# Altium schematic symbol library CPU_NXP_IMX.SchLib: 18 symbols (part 1 of 6)
Pins are listed as number, name and electrical type; pins without a type are passive.

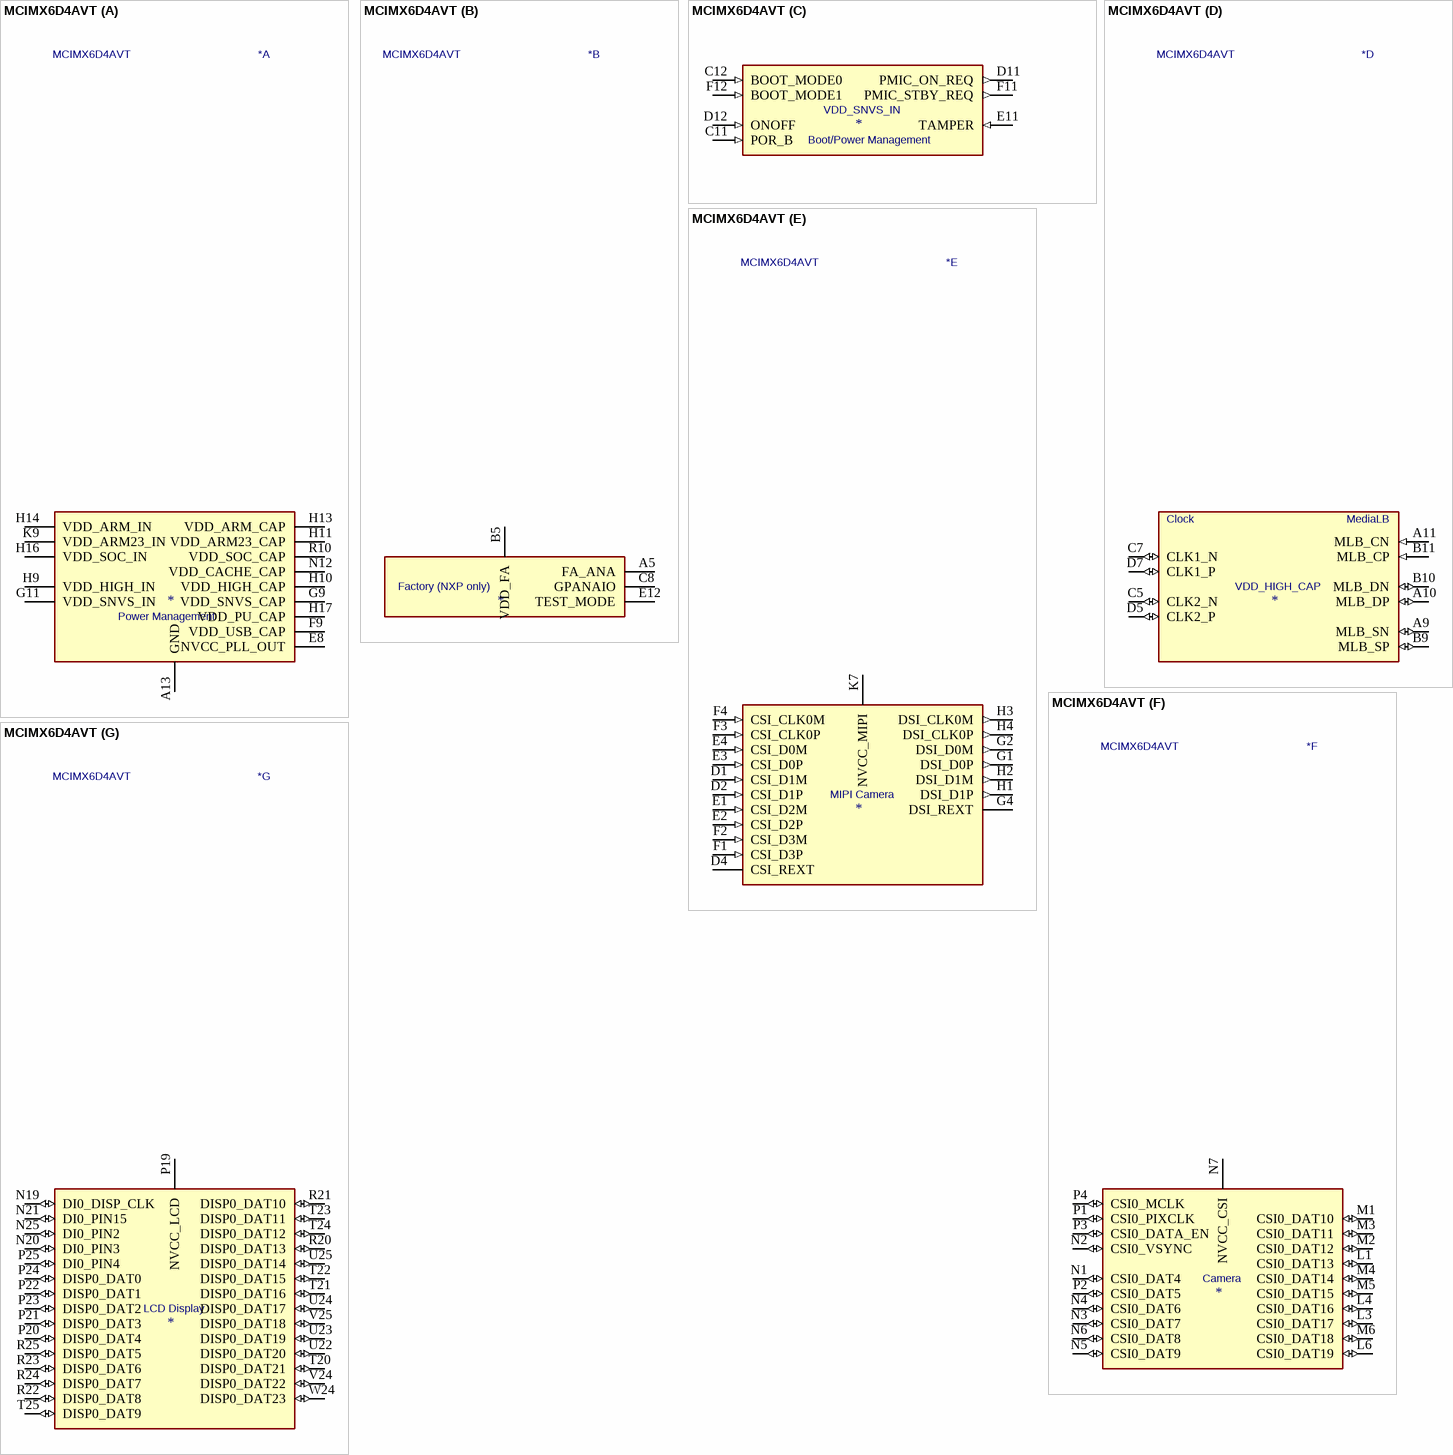
[diagram p0: symbol MCIMX6D4AVT]

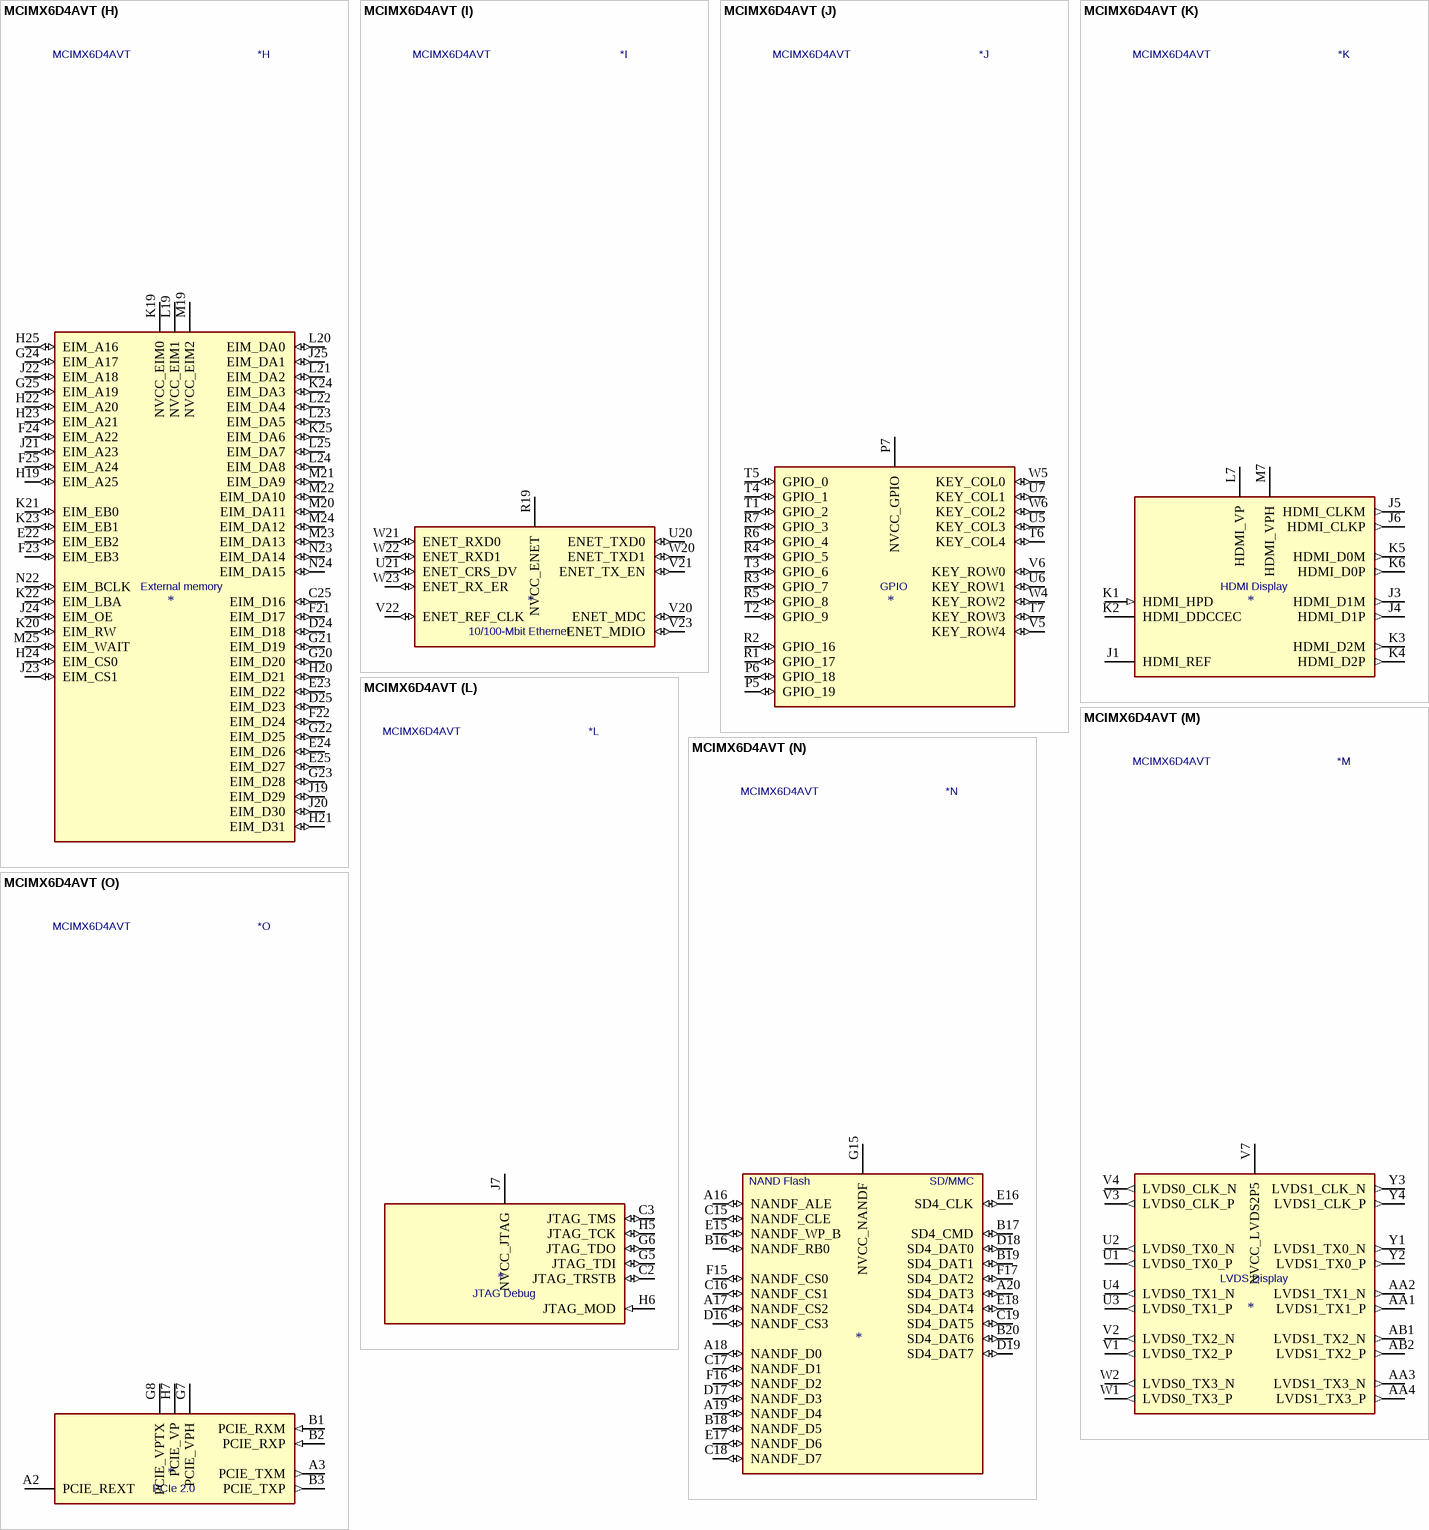
[diagram p1: symbol MCIMX6D4AVT]

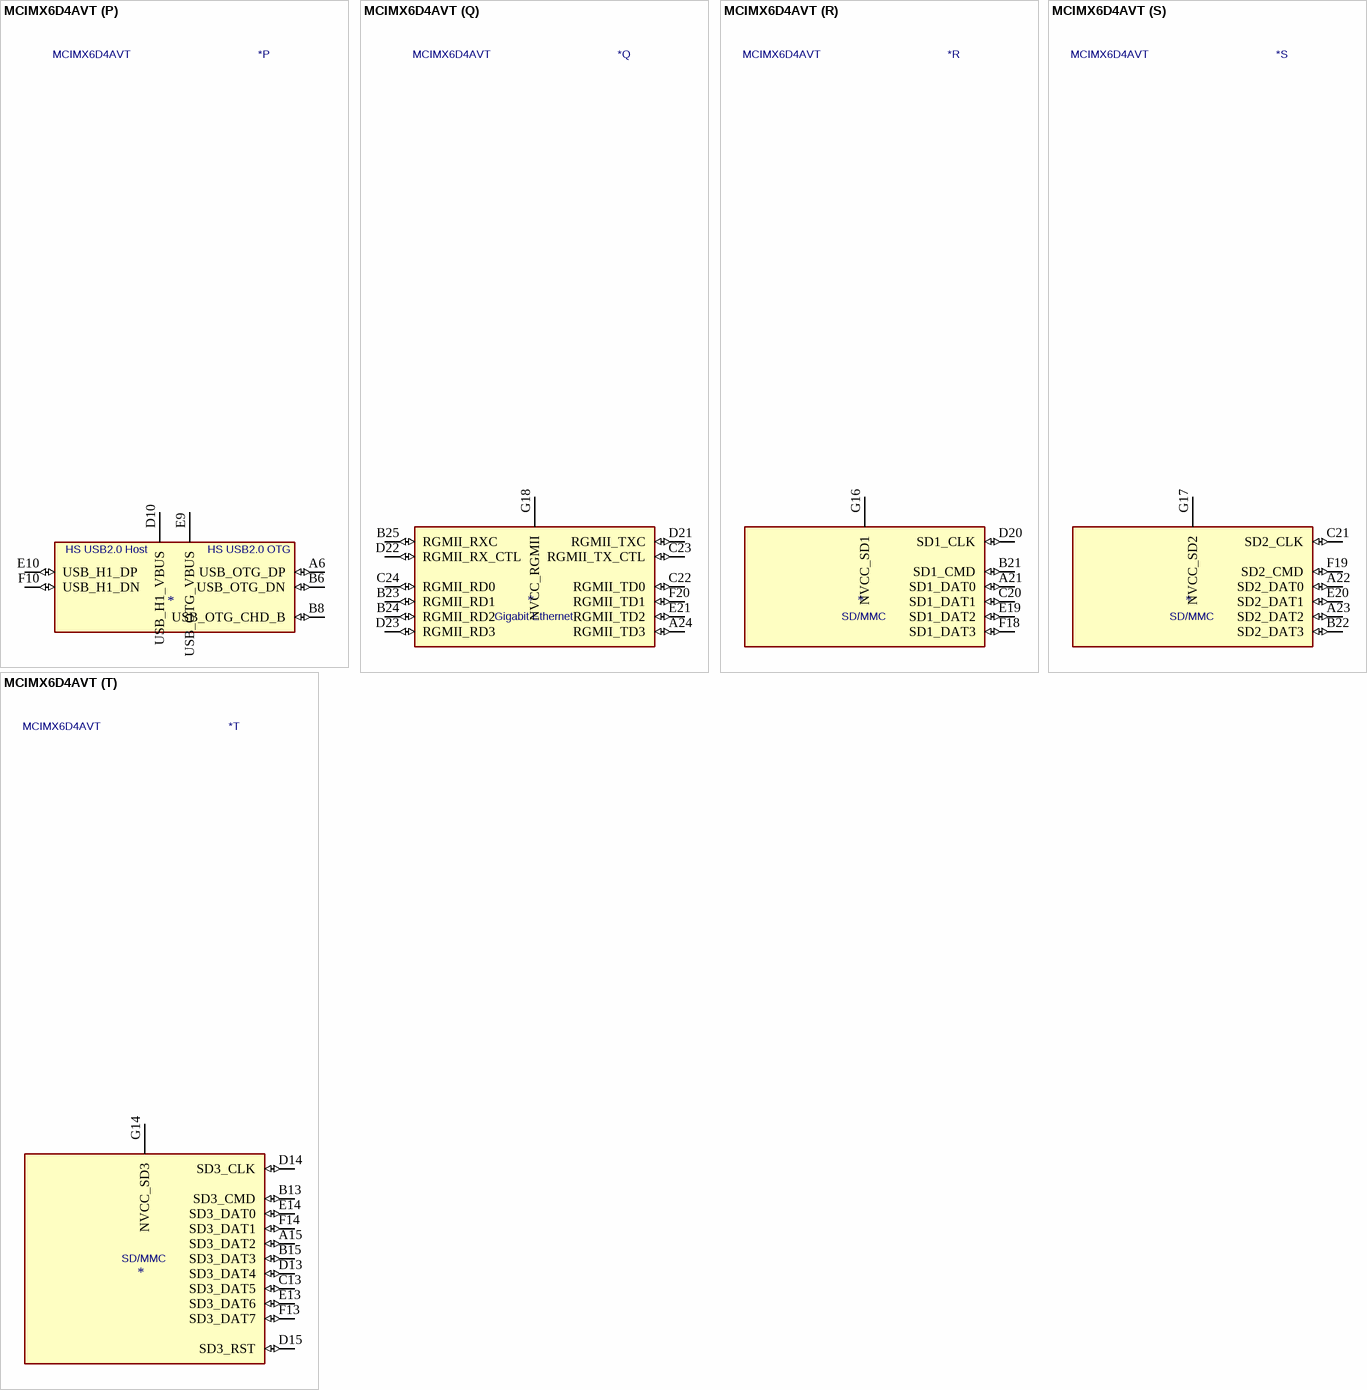
[diagram p2: symbol MCIMX6D4AVT]

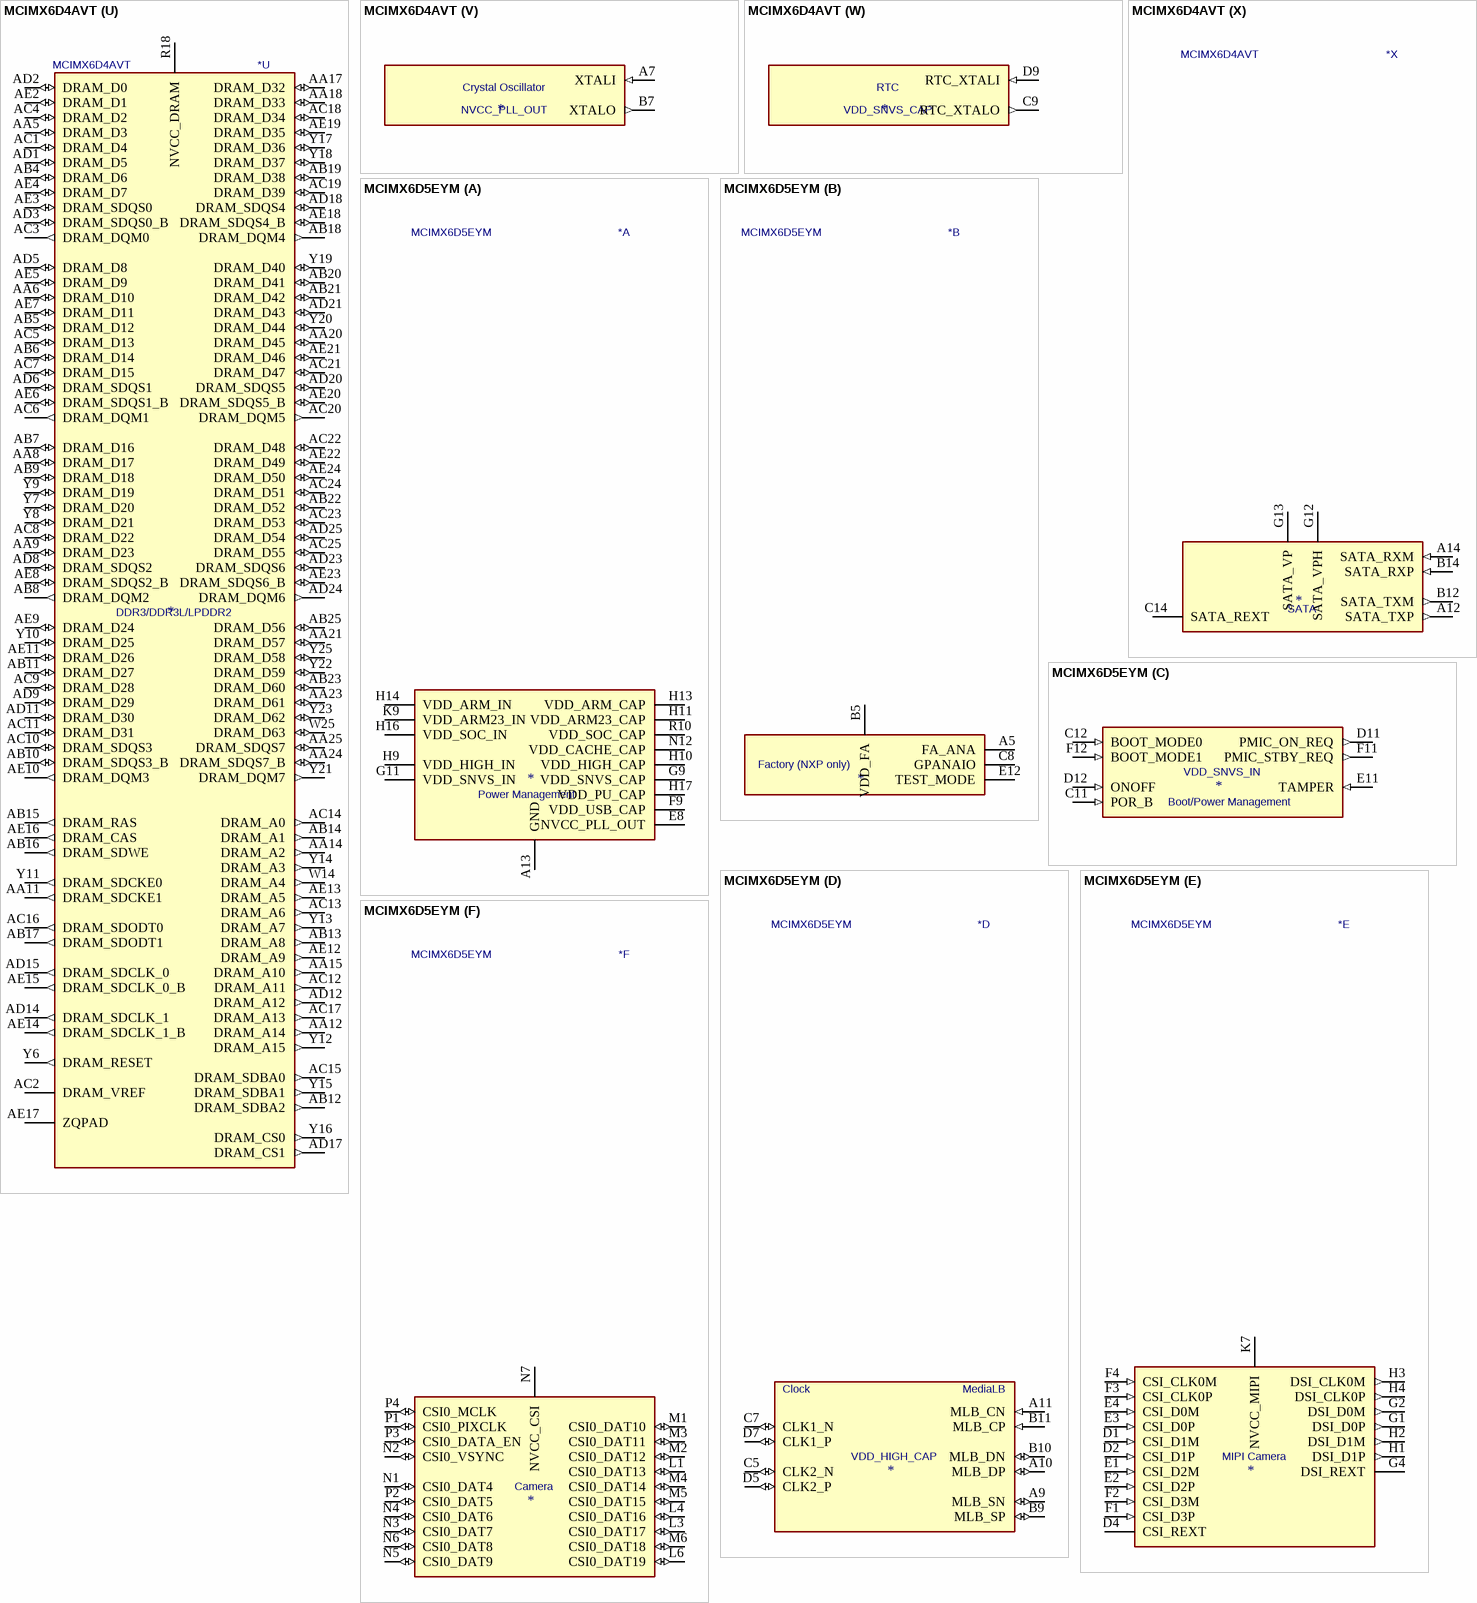
[diagram p3: symbols MCIMX6D4AVT to MCIMX6D5EYM]

## MCIMX6D4AVT
designator *  value MCIMX6D4AVT
ki_keywords: Dual-Core ARM Cortex A9 SOC Automotive; ki_description: i.MX 6Dual Automotive and Infotainment Application Processor, BGA-624; ki_fp_filters: BGA*21.0x21.0mm*P0.8mm*; Footprint: Package_BGA:BGA-624_21.0x21.0mm_Layout25x25_P0.8mm; Supplier: https://www.nxp.com/docs/en/data-sheet/IMX6DQAEC.pdf
footprint BGA-624_21.0x21.0mm_Layout25x25_P0.8mm
part A pins: A4 GND hidden, A8 GND hidden, A13 GND (power), A25 GND hidden, AA7 GND hidden, AA10 GND hidden, AA13 GND hidden, AA16 GND hidden, AA19 GND hidden, AA22 GND hidden, AB3 GND hidden, AB24 GND hidden, AD4 GND hidden, AD7 GND hidden, AD10 GND hidden, AD13 GND hidden, AD16 GND hidden, AD19 GND hidden, AD22 GND hidden, AE1 GND hidden, AE25 GND hidden, B4 GND hidden, C1 GND hidden, C4 GND hidden, C6 GND hidden, C10 GND hidden, D3 GND hidden, D6 GND hidden, D8 GND hidden, E5 GND hidden, E6 GND hidden, E7 GND hidden, E8 NVCC_PLL_OUT (power), F5 GND hidden, F6 GND hidden, F7 GND hidden, F8 GND hidden, F9 VDD_USB_CAP (power), G3 GND hidden, G9 VDD_SNVS_CAP (power), G10 GND hidden, G11 VDD_SNVS_IN (power), G19 GND hidden, H8 GND hidden, H9 VDD_HIGH_IN (power), H10 VDD_HIGH_CAP (power), H11 VDD_ARM23_CAP (power), H12 GND hidden, H13 VDD_ARM_CAP (power), H14 VDD_ARM_IN (power), H15 GND hidden, H16 VDD_SOC_IN (power), H17 VDD_PU_CAP (power), H18 GND hidden, J2 GND hidden, J8 GND hidden, J9 VDD_HIGH_IN hidden, J10 VDD_HIGH_CAP hidden, J11 VDD_ARM23_CAP hidden, J12 GND hidden, J13 VDD_ARM_CAP hidden, J14 VDD_ARM_IN hidden, J15 GND hidden, J16 VDD_SOC_IN hidden, J17 VDD_PU_CAP hidden, J18 GND hidden, K8 GND hidden, K9 VDD_ARM23_IN (power), K10 GND hidden, K11 VDD_ARM23_CAP hidden, K12 GND hidden, K13 VDD_ARM_CAP hidden, K14 VDD_ARM_IN hidden, K15 GND hidden, K16 VDD_SOC_IN hidden, K17 VDD_PU_CAP hidden, K18 GND hidden, L2 GND hidden, L5 GND hidden, L8 GND hidden, L9 VDD_ARM23_IN hidden, L10 GND hidden, L11 VDD_ARM23_CAP hidden, L12 GND hidden, L13 VDD_ARM_CAP hidden, L14 VDD_ARM_IN hidden, L15 GND hidden, L16 VDD_SOC_IN hidden, L17 VDD_PU_CAP hidden, L18 GND hidden, M8 GND hidden, M9 VDD_ARM23_IN hidden, M10 GND hidden, M11 VDD_ARM23_CAP hidden, M12 GND hidden, M13 VDD_ARM_CAP hidden, M14 VDD_ARM_IN hidden, M15 GND hidden, M16 VDD_SOC_IN hidden, M17 VDD_PU_CAP hidden, M18 GND hidden, N8 GND hidden, N9 VDD_ARM23_IN hidden, N10 GND hidden, N11 VDD_ARM23_CAP hidden, N12 VDD_CACHE_CAP (power), N13 VDD_ARM_CAP hidden, N14 VDD_ARM_IN hidden, N15 GND hidden, N16 VDD_SOC_IN hidden, N17 VDD_PU_CAP hidden, N18 GND hidden, P8 GND hidden, P9 VDD_ARM23_IN hidden, P10 GND hidden, P11 VDD_ARM23_CAP hidden, P12 GND hidden, P13 VDD_ARM_CAP hidden, P14 VDD_ARM_IN hidden, P15 GND hidden, P16 VDD_SOC_IN hidden, P17 VDD_PU_CAP hidden, P18 GND hidden, R8 GND hidden, R9 VDD_ARM23_IN hidden, R10 VDD_SOC_CAP (power), R11 VDD_ARM23_CAP hidden, R12 GND hidden, R13 VDD_ARM_CAP hidden, R14 VDD_ARM_IN hidden, R15 GND hidden, R16 VDD_SOC_IN hidden, R17 GND hidden, T8 GND hidden, T9 VDD_ARM23_IN hidden, T10 VDD_SOC_CAP hidden, T11 GND hidden, T12 GND hidden, T13 VDD_SOC_CAP hidden, T14 VDD_SOC_CAP hidden, T15 GND hidden, T16 VDD_SOC_IN hidden, T17 GND hidden, T19 GND hidden, U8 GND hidden, U9 VDD_ARM23_IN hidden, U10 VDD_SOC_CAP hidden, U11 GND hidden, U12 GND hidden, U13 VDD_SOC_CAP hidden, U14 VDD_SOC_CAP hidden, U15 GND hidden, U16 VDD_SOC_IN hidden, U17 GND hidden, U19 GND hidden, V8 GND hidden, V19 GND hidden, W3 GND hidden, W7 GND hidden, W8 GND hidden, W9 GND hidden, W10 GND hidden, W11 GND hidden, W12 GND hidden, W13 GND hidden, W15 GND hidden, W16 GND hidden, W17 GND hidden, W18 GND hidden, W19 GND hidden, Y5 GND hidden, Y24 GND hidden
part B pins: A5 FA_ANA, B5 VDD_FA, C8 GPANAIO, E12 TEST_MODE
part C pins: C11 POR_B (in), C12 BOOT_MODE0 (in), D11 PMIC_ON_REQ (out), D12 ONOFF (in), E11 TAMPER (in), F11 PMIC_STBY_REQ (out), F12 BOOT_MODE1 (in)
part D pins: A9 MLB_SN (io), A10 MLB_DP (io), A11 MLB_CN (in), B9 MLB_SP (io), B10 MLB_DN (io), B11 MLB_CP (in), C5 CLK2_N (io), C7 CLK1_N (io), D5 CLK2_P (io), D7 CLK1_P (io)
part E pins: D1 CSI_D1M (in), D2 CSI_D1P (in), D4 CSI_REXT, E1 CSI_D2M (in), E2 CSI_D2P (in), E3 CSI_D0P (in), E4 CSI_D0M (in), F1 CSI_D3P (in), F2 CSI_D3M (in), F3 CSI_CLK0P (in), F4 CSI_CLK0M (in), G1 DSI_D0P (out), G2 DSI_D0M (out), G4 DSI_REXT, H1 DSI_D1P (out), H2 DSI_D1M (out), H3 DSI_CLK0M (out), H4 DSI_CLK0P (out), K7 NVCC_MIPI (power)
part F pins: L1 CSI0_DAT13 (io), L3 CSI0_DAT17 (io), L4 CSI0_DAT16 (io), L6 CSI0_DAT19 (io), M1 CSI0_DAT10 (io), M2 CSI0_DAT12 (io), M3 CSI0_DAT11 (io), M4 CSI0_DAT14 (io), M5 CSI0_DAT15 (io), M6 CSI0_DAT18 (io), N1 CSI0_DAT4 (io), N2 CSI0_VSYNC (io), N3 CSI0_DAT7 (io), N4 CSI0_DAT6 (io), N5 CSI0_DAT9 (io), N6 CSI0_DAT8 (io), N7 NVCC_CSI (power), P1 CSI0_PIXCLK (io), P2 CSI0_DAT5 (io), P3 CSI0_DATA_EN (io), P4 CSI0_MCLK (io)
part G pins: N19 DI0_DISP_CLK (io), N20 DI0_PIN3 (io), N21 DI0_PIN15 (io), N25 DI0_PIN2 (io), P19 NVCC_LCD (power), P20 DISP0_DAT4 (io), P21 DISP0_DAT3 (io), P22 DISP0_DAT1 (io), P23 DISP0_DAT2 (io), P24 DISP0_DAT0 (io), P25 DI0_PIN4 (io), R20 DISP0_DAT13 (io), R21 DISP0_DAT10 (io), R22 DISP0_DAT8 (io), R23 DISP0_DAT6 (io), R24 DISP0_DAT7 (io), R25 DISP0_DAT5 (io), T20 DISP0_DAT21 (io), T21 DISP0_DAT16 (io), T22 DISP0_DAT15 (io), T23 DISP0_DAT11 (io), T24 DISP0_DAT12 (io), T25 DISP0_DAT9 (io), U22 DISP0_DAT20 (io), U23 DISP0_DAT19 (io), U24 DISP0_DAT17 (io), U25 DISP0_DAT14 (io), V24 DISP0_DAT22 (io), V25 DISP0_DAT18 (io), W24 DISP0_DAT23 (io)
part H pins: C25 EIM_D16 (io), D24 EIM_D18 (io), D25 EIM_D23 (io), E22 EIM_EB2 (io), E23 EIM_D22 (io), E24 EIM_D26 (io), E25 EIM_D27 (io), F21 EIM_D17 (io), F22 EIM_D24 (io), F23 EIM_EB3 (io), F24 EIM_A22 (io), F25 EIM_A24 (io), G20 EIM_D20 (io), G21 EIM_D19 (io), G22 EIM_D25 (io), G23 EIM_D28 (io), G24 EIM_A17 (io), G25 EIM_A19 (io), H19 EIM_A25 (io), H20 EIM_D21 (io), H21 EIM_D31 (io), H22 EIM_A20 (io), H23 EIM_A21 (io), H24 EIM_CS0 (io), H25 EIM_A16 (io), J19 EIM_D29 (io), J20 EIM_D30 (io), J21 EIM_A23 (io), J22 EIM_A18 (io), J23 EIM_CS1 (io), J24 EIM_OE (io), J25 EIM_DA1 (io), K19 NVCC_EIM0 (power), K20 EIM_RW (io), K21 EIM_EB0 (io), K22 EIM_LBA (io), K23 EIM_EB1 (io), K24 EIM_DA3 (io), K25 EIM_DA6 (io), L19 NVCC_EIM1 (power), L20 EIM_DA0 (io), L21 EIM_DA2 (io), L22 EIM_DA4 (io), L23 EIM_DA5 (io), L24 EIM_DA8 (io), L25 EIM_DA7 (io), M19 NVCC_EIM2 (power), M20 EIM_DA11 (io), M21 EIM_DA9 (io), M22 EIM_DA10 (io), M23 EIM_DA13 (io), M24 EIM_DA12 (io), M25 EIM_WAIT (io), N22 EIM_BCLK (io), N23 EIM_DA14 (io), N24 EIM_DA15 (io)
part I pins: R19 NVCC_ENET (power), U20 ENET_TXD0 (io), U21 ENET_CRS_DV (io), V20 ENET_MDC (io), V21 ENET_TX_EN (io), V22 ENET_REF_CLK (io), V23 ENET_MDIO (io), W20 ENET_TXD1 (io), W21 ENET_RXD0 (io), W22 ENET_RXD1 (io), W23 ENET_RX_ER (io)
part J pins: P5 GPIO_19 (io), P6 GPIO_18 (io), P7 NVCC_GPIO (power), R1 GPIO_17 (io), R2 GPIO_16 (io), R3 GPIO_7 (io), R4 GPIO_5 (io), R5 GPIO_8 (io), R6 GPIO_4 (io), R7 GPIO_3 (io), T1 GPIO_2 (io), T2 GPIO_9 (io), T3 GPIO_6 (io), T4 GPIO_1 (io), T5 GPIO_0 (io), T6 KEY_COL4 (io), T7 KEY_ROW3 (io), U5 KEY_COL3 (io), U6 KEY_ROW1 (io), U7 KEY_COL1 (io), V5 KEY_ROW4 (io), V6 KEY_ROW0 (io), W4 KEY_ROW2 (io), W5 KEY_COL0 (io), W6 KEY_COL2 (io)
part K pins: J1 HDMI_REF, J3 HDMI_D1M (out), J4 HDMI_D1P (out), J5 HDMI_CLKM (out), J6 HDMI_CLKP (out), K1 HDMI_HPD (in), K2 HDMI_DDCCEC, K3 HDMI_D2M (out), K4 HDMI_D2P (out), K5 HDMI_D0M (out), K6 HDMI_D0P (out), L7 HDMI_VP (power), M7 HDMI_VPH (power)
part L pins: C2 JTAG_TRSTB (io), C3 JTAG_TMS (io), G5 JTAG_TDI (io), G6 JTAG_TDO (io), H5 JTAG_TCK (io), H6 JTAG_MOD (in), J7 NVCC_JTAG (power)
part M pins: AA1 LVDS1_TX1_P (out), AA2 LVDS1_TX1_N (out), AA3 LVDS1_TX3_N (out), AA4 LVDS1_TX3_P (out), AB1 LVDS1_TX2_N (out), AB2 LVDS1_TX2_P (out), U1 LVDS0_TX0_P (out), U2 LVDS0_TX0_N (out), U3 LVDS0_TX1_P (out), U4 LVDS0_TX1_N (out), V1 LVDS0_TX2_P (out), V2 LVDS0_TX2_N (out), V3 LVDS0_CLK_P (out), V4 LVDS0_CLK_N (out), V7 NVCC_LVDS2P5 (power), W1 LVDS0_TX3_P (out), W2 LVDS0_TX3_N (out), Y1 LVDS1_TX0_N (out), Y2 LVDS1_TX0_P (out), Y3 LVDS1_CLK_N (out), Y4 LVDS1_CLK_P (out)
part N pins: A16 NANDF_ALE (io), A17 NANDF_CS2 (io), A18 NANDF_D0 (io), A19 NANDF_D4 (io), A20 SD4_DAT3 (io), B16 NANDF_RB0 (io), B17 SD4_CMD (io), B18 NANDF_D5 (io), B19 SD4_DAT1 (io), B20 SD4_DAT6 (io), C15 NANDF_CLE (io), C16 NANDF_CS1 (io), C17 NANDF_D1 (io), C18 NANDF_D7 (io), C19 SD4_DAT5 (io), D16 NANDF_CS3 (io), D17 NANDF_D3 (io), D18 SD4_DAT0 (io), D19 SD4_DAT7 (io), E15 NANDF_WP_B (io), E16 SD4_CLK (io), E17 NANDF_D6 (io), E18 SD4_DAT4 (io), F15 NANDF_CS0 (io), F16 NANDF_D2 (io), F17 SD4_DAT2 (io), G15 NVCC_NANDF (power)
part O pins: A2 PCIE_REXT, A3 PCIE_TXM (out), B1 PCIE_RXM (in), B2 PCIE_RXP (in), B3 PCIE_TXP (out), G7 PCIE_VPH (power), G8 PCIE_VPTX (power), H7 PCIE_VP (power)
part P pins: A6 USB_OTG_DP (io), B6 USB_OTG_DN (io), B8 USB_OTG_CHD_B (io), D10 USB_H1_VBUS (power), E9 USB_OTG_VBUS (power), E10 USB_H1_DP (io), F10 USB_H1_DN (io)
part Q pins: A24 RGMII_TD3 (io), B23 RGMII_RD1 (io), B24 RGMII_RD2 (io), B25 RGMII_RXC (io), C22 RGMII_TD0 (io), C23 RGMII_TX_CTL (io), C24 RGMII_RD0 (io), D21 RGMII_TXC (io), D22 RGMII_RX_CTL (io), D23 RGMII_RD3 (io), E21 RGMII_TD2 (io), F20 RGMII_TD1 (io), G18 NVCC_RGMII (power)
part R pins: A21 SD1_DAT0 (io), B21 SD1_CMD (io), C20 SD1_DAT1 (io), D20 SD1_CLK (io), E19 SD1_DAT2 (io), F18 SD1_DAT3 (io), G16 NVCC_SD1 (power)
part S pins: A22 SD2_DAT0 (io), A23 SD2_DAT2 (io), B22 SD2_DAT3 (io), C21 SD2_CLK (io), E20 SD2_DAT1 (io), F19 SD2_CMD (io), G17 NVCC_SD2 (power)
part T pins: A15 SD3_DAT2 (io), B13 SD3_CMD (io), B15 SD3_DAT3 (io), C13 SD3_DAT5 (io), D13 SD3_DAT4 (io), D14 SD3_CLK (io), D15 SD3_RST (io), E13 SD3_DAT6 (io), E14 SD3_DAT0 (io), F13 SD3_DAT7 (io), F14 SD3_DAT1 (io), G14 NVCC_SD3 (power)
part U pins: AA5 DRAM_D3 (io), AA6 DRAM_D10 (io), AA8 DRAM_D17 (io), AA9 DRAM_D23 (io), AA11 DRAM_SDCKE1 (out), AA12 DRAM_A14 (out), AA14 DRAM_A2 (out), AA15 DRAM_A10 (out), AA17 DRAM_D32 (io), AA18 DRAM_D33 (io), AA20 DRAM_D45 (io), AA21 DRAM_D57 (io), AA23 DRAM_D61 (io), AA24 DRAM_SDQS7_B (io), AA25 DRAM_SDQS7 (io), AB4 DRAM_D6 (io), AB5 DRAM_D12 (io), AB6 DRAM_D14 (io), AB7 DRAM_D16 (io), AB8 DRAM_DQM2 (out), AB9 DRAM_D18 (io), AB10 DRAM_SDQS3_B (io), AB11 DRAM_D27 (io), AB12 DRAM_SDBA2 (out), AB13 DRAM_A8 (out), AB14 DRAM_A1 (out), AB15 DRAM_RAS (out), AB16 DRAM_SDWE (out), AB17 DRAM_SDODT1 (out), AB18 DRAM_DQM4 (out), AB19 DRAM_D38 (io), AB20 DRAM_D41 (io), AB21 DRAM_D42 (io), AB22 DRAM_D52 (io), AB23 DRAM_D60 (io), AB25 DRAM_D56 (io), AC1 DRAM_D4 (io), AC2 DRAM_VREF (power), AC3 DRAM_DQM0 (out), AC4 DRAM_D2 (io), AC5 DRAM_D13 (io), AC6 DRAM_DQM1 (out), AC7 DRAM_D15 (io), AC8 DRAM_D22 (io), AC9 DRAM_D28 (io), AC10 DRAM_SDQS3 (io), AC11 DRAM_D31 (io), AC12 DRAM_A11 (out), AC13 DRAM_A6 (out), AC14 DRAM_A0 (out), AC15 DRAM_SDBA0 (out), AC16 DRAM_SDODT0 (out), AC17 DRAM_A13 (out), AC18 DRAM_D34 (io), AC19 DRAM_D39 (io), AC20 DRAM_DQM5 (out), AC21 DRAM_D47 (io), AC22 DRAM_D48 (io), AC23 DRAM_D53 (io), AC24 DRAM_D51 (io), AC25 DRAM_D55 (io), AD1 DRAM_D5 (io), AD2 DRAM_D0 (io), AD3 DRAM_SDQS0_B (io), AD5 DRAM_D8 (io), AD6 DRAM_SDQS1 (io), AD8 DRAM_SDQS2 (io), AD9 DRAM_D29 (io), AD11 DRAM_D30 (io), AD12 DRAM_A12 (out), AD14 DRAM_SDCLK_1 (out), AD15 DRAM_SDCLK_0 (out), AD17 DRAM_CS1 (out), AD18 DRAM_SDQS4 (io), AD20 DRAM_SDQS5 (io), AD21 DRAM_D43 (io), AD23 DRAM_SDQS6 (io), AD24 DRAM_DQM6 (out), AD25 DRAM_D54 (io), AE2 DRAM_D1 (io), AE3 DRAM_SDQS0 (io), AE4 DRAM_D7 (io), AE5 DRAM_D9 (io), AE6 DRAM_SDQS1_B (io), AE7 DRAM_D11 (io), AE8 DRAM_SDQS2_B (io), AE9 DRAM_D24 (io), AE10 DRAM_DQM3 (out), AE11 DRAM_D26 (io), AE12 DRAM_A9 (out), AE13 DRAM_A5 (out), AE14 DRAM_SDCLK_1_B (out), AE15 DRAM_SDCLK_0_B (out), AE16 DRAM_CAS (out), AE17 ZQPAD, AE18 DRAM_SDQS4_B (io), AE19 DRAM_D35 (io), AE20 DRAM_SDQS5_B (io), AE21 DRAM_D46 (io), AE22 DRAM_D49 (io), AE23 DRAM_SDQS6_B (io), AE24 DRAM_D50 (io), R18 NVCC_DRAM (power), T18 NVCC_DRAM hidden, U18 NVCC_DRAM hidden, V9 NVCC_DRAM hidden, V10 NVCC_DRAM hidden, V11 NVCC_DRAM hidden, V12 NVCC_DRAM hidden, V13 NVCC_DRAM hidden, V14 NVCC_DRAM hidden, V15 NVCC_DRAM hidden, V16 NVCC_DRAM hidden, V17 NVCC_DRAM hidden, V18 NVCC_DRAM hidden, W14 DRAM_A4 (out), W25 DRAM_D63 (io), Y6 DRAM_RESET (out), Y7 DRAM_D20 (io), Y8 DRAM_D21 (io), Y9 DRAM_D19 (io), Y10 DRAM_D25 (io), Y11 DRAM_SDCKE0 (out), Y12 DRAM_A15 (out), Y13 DRAM_A7 (out), Y14 DRAM_A3 (out), Y15 DRAM_SDBA1 (out), Y16 DRAM_CS0 (out), Y17 DRAM_D36 (io), Y18 DRAM_D37 (io), Y19 DRAM_D40 (io), Y20 DRAM_D44 (io), Y21 DRAM_DQM7 (out), Y22 DRAM_D59 (io), Y23 DRAM_D62 (io), Y25 DRAM_D58 (io)
part V pins: A7 XTALI (in), B7 XTALO (out)
part W pins: C9 RTC_XTALO (out), D9 RTC_XTALI (in)
part X pins: A12 SATA_TXP (out), A14 SATA_RXM (in), B12 SATA_TXM (out), B14 SATA_RXP (in), C14 SATA_REXT, G12 SATA_VPH (power), G13 SATA_VP (power)
part A text: Power Management
part B text: Factory (NXP only)
part C text: Boot/Power Management
part D text: Clock; MediaLB
part E text: MIPI Camera
part F text: Camera
part G text: LCD Display
part H text: External memory
part I text: 10/100-Mbit Ethernet
part J text: GPIO
part K text: HDMI Display
part L text: JTAG Debug
part M text: LVDS Display
part N text: NAND Flash; SD/MMC
part O text: PCIe 2.0
part P text: HS USB2.0 Host; HS USB2.0 OTG
part Q text: Gigabit Ethernet
part R text: SD/MMC
part S text: SD/MMC
part T text: SD/MMC
part U text: DDR3/DDR3L/LPDDR2
part V text: Crystal Oscillator
part W text: RTC
part X text: SATA

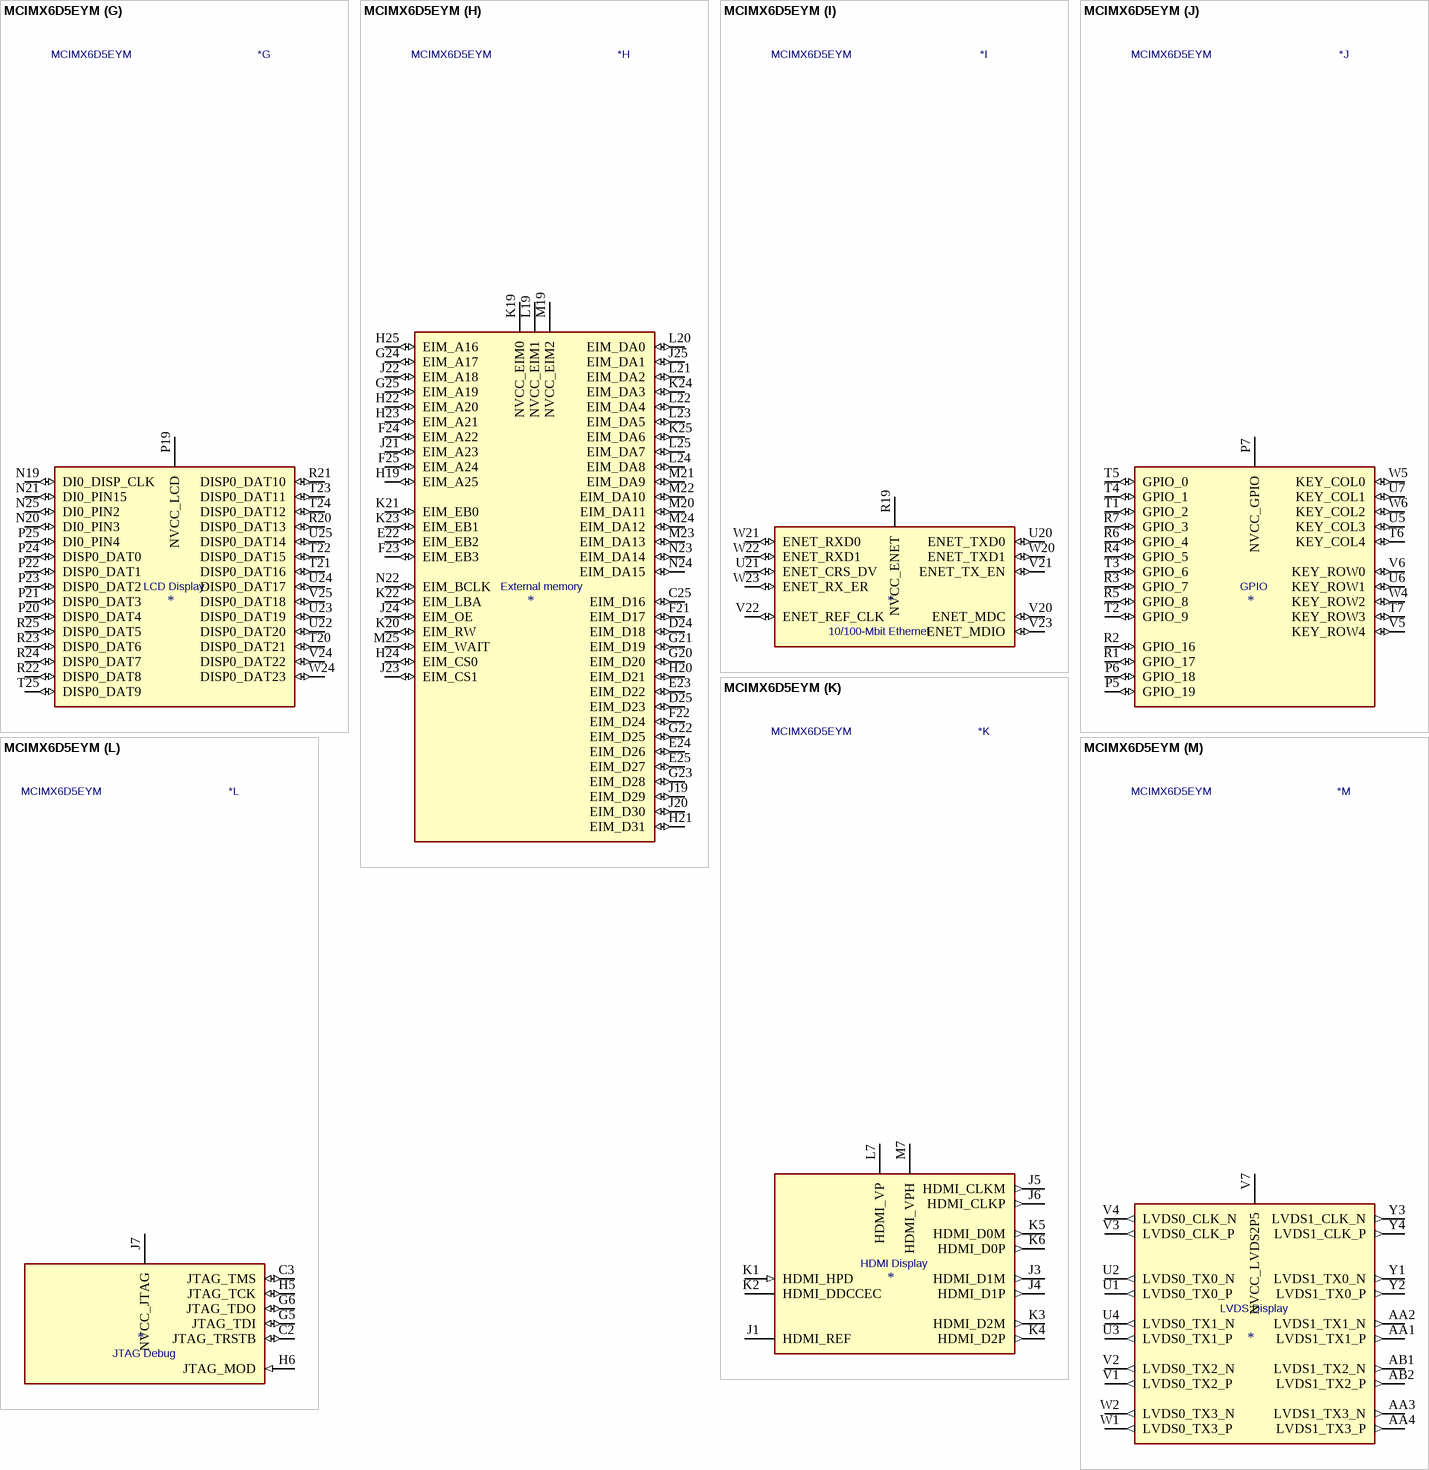
[diagram p4: symbol MCIMX6D5EYM]

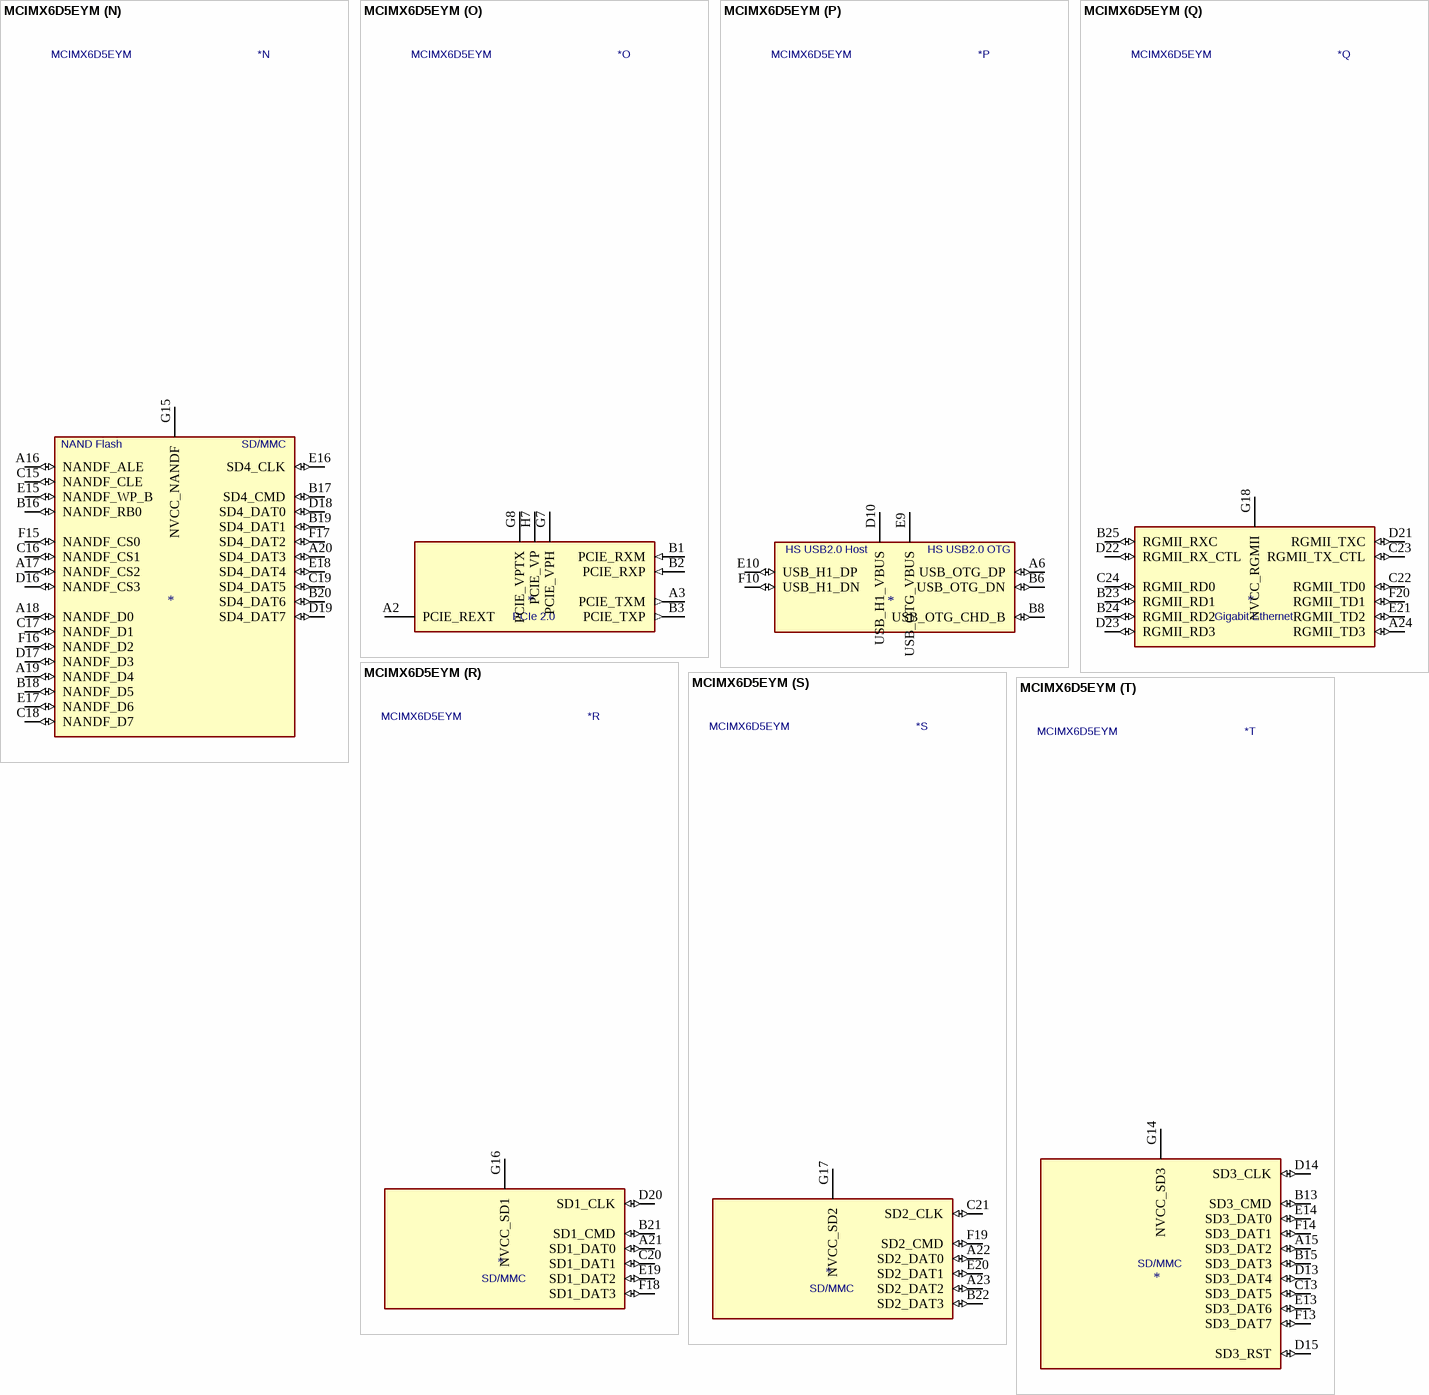
[diagram p5: symbol MCIMX6D5EYM]

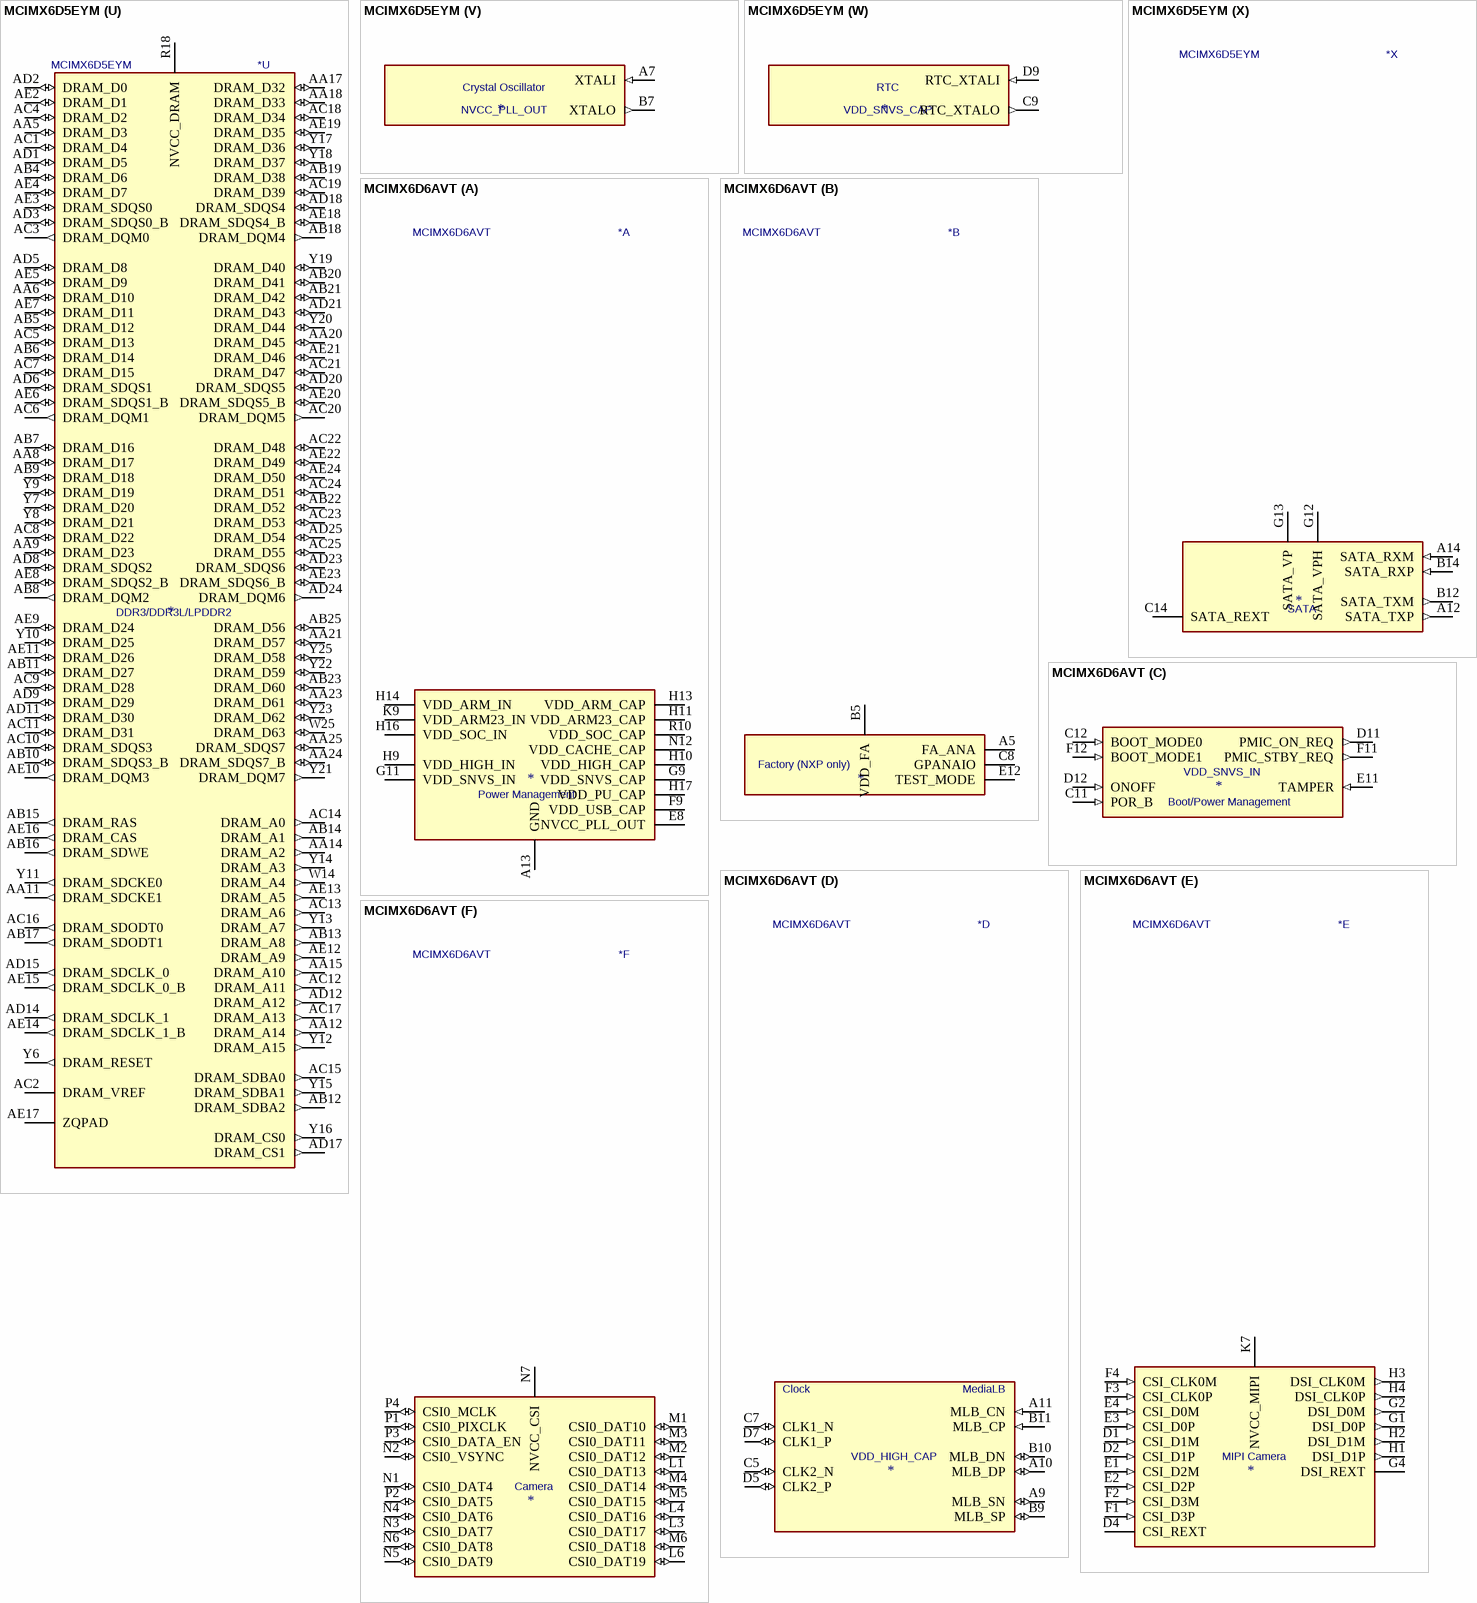
[diagram p6: symbols MCIMX6D5EYM to MCIMX6D6AVT]

## MCIMX6D5EYM
designator *  value MCIMX6D5EYM
ki_keywords: Dual-Core ARM Cortex A9 SOC; ki_description: i.MX 6Dual Application Processor for Consumer Products, BGA-624; ki_fp_filters: BGA*21.0x21.0mm*P0.8mm*; Footprint: Package_BGA:BGA-624_21.0x21.0mm_Layout25x25_P0.8mm; Supplier: https://www.nxp.com/docs/en/data-sheet/IMX6DQCEC.pdf
footprint BGA-624_21.0x21.0mm_Layout25x25_P0.8mm
part A pins: A4 GND hidden, A8 GND hidden, A13 GND (power), A25 GND hidden, AA7 GND hidden, AA10 GND hidden, AA13 GND hidden, AA16 GND hidden, AA19 GND hidden, AA22 GND hidden, AB3 GND hidden, AB24 GND hidden, AD4 GND hidden, AD7 GND hidden, AD10 GND hidden, AD13 GND hidden, AD16 GND hidden, AD19 GND hidden, AD22 GND hidden, AE1 GND hidden, AE25 GND hidden, B4 GND hidden, C1 GND hidden, C4 GND hidden, C6 GND hidden, C10 GND hidden, D3 GND hidden, D6 GND hidden, D8 GND hidden, E5 GND hidden, E6 GND hidden, E7 GND hidden, E8 NVCC_PLL_OUT (power), F5 GND hidden, F6 GND hidden, F7 GND hidden, F8 GND hidden, F9 VDD_USB_CAP (power), G3 GND hidden, G9 VDD_SNVS_CAP (power), G10 GND hidden, G11 VDD_SNVS_IN (power), G19 GND hidden, H8 GND hidden, H9 VDD_HIGH_IN (power), H10 VDD_HIGH_CAP (power), H11 VDD_ARM23_CAP (power), H12 GND hidden, H13 VDD_ARM_CAP (power), H14 VDD_ARM_IN (power), H15 GND hidden, H16 VDD_SOC_IN (power), H17 VDD_PU_CAP (power), H18 GND hidden, J2 GND hidden, J8 GND hidden, J9 VDD_HIGH_IN hidden, J10 VDD_HIGH_CAP hidden, J11 VDD_ARM23_CAP hidden, J12 GND hidden, J13 VDD_ARM_CAP hidden, J14 VDD_ARM_IN hidden, J15 GND hidden, J16 VDD_SOC_IN hidden, J17 VDD_PU_CAP hidden, J18 GND hidden, K8 GND hidden, K9 VDD_ARM23_IN (power), K10 GND hidden, K11 VDD_ARM23_CAP hidden, K12 GND hidden, K13 VDD_ARM_CAP hidden, K14 VDD_ARM_IN hidden, K15 GND hidden, K16 VDD_SOC_IN hidden, K17 VDD_PU_CAP hidden, K18 GND hidden, L2 GND hidden, L5 GND hidden, L8 GND hidden, L9 VDD_ARM23_IN hidden, L10 GND hidden, L11 VDD_ARM23_CAP hidden, L12 GND hidden, L13 VDD_ARM_CAP hidden, L14 VDD_ARM_IN hidden, L15 GND hidden, L16 VDD_SOC_IN hidden, L17 VDD_PU_CAP hidden, L18 GND hidden, M8 GND hidden, M9 VDD_ARM23_IN hidden, M10 GND hidden, M11 VDD_ARM23_CAP hidden, M12 GND hidden, M13 VDD_ARM_CAP hidden, M14 VDD_ARM_IN hidden, M15 GND hidden, M16 VDD_SOC_IN hidden, M17 VDD_PU_CAP hidden, M18 GND hidden, N8 GND hidden, N9 VDD_ARM23_IN hidden, N10 GND hidden, N11 VDD_ARM23_CAP hidden, N12 VDD_CACHE_CAP (power), N13 VDD_ARM_CAP hidden, N14 VDD_ARM_IN hidden, N15 GND hidden, N16 VDD_SOC_IN hidden, N17 VDD_PU_CAP hidden, N18 GND hidden, P8 GND hidden, P9 VDD_ARM23_IN hidden, P10 GND hidden, P11 VDD_ARM23_CAP hidden, P12 GND hidden, P13 VDD_ARM_CAP hidden, P14 VDD_ARM_IN hidden, P15 GND hidden, P16 VDD_SOC_IN hidden, P17 VDD_PU_CAP hidden, P18 GND hidden, R8 GND hidden, R9 VDD_ARM23_IN hidden, R10 VDD_SOC_CAP (power), R11 VDD_ARM23_CAP hidden, R12 GND hidden, R13 VDD_ARM_CAP hidden, R14 VDD_ARM_IN hidden, R15 GND hidden, R16 VDD_SOC_IN hidden, R17 GND hidden, T8 GND hidden, T9 VDD_ARM23_IN hidden, T10 VDD_SOC_CAP hidden, T11 GND hidden, T12 GND hidden, T13 VDD_SOC_CAP hidden, T14 VDD_SOC_CAP hidden, T15 GND hidden, T16 VDD_SOC_IN hidden, T17 GND hidden, T19 GND hidden, U8 GND hidden, U9 VDD_ARM23_IN hidden, U10 VDD_SOC_CAP hidden, U11 GND hidden, U12 GND hidden, U13 VDD_SOC_CAP hidden, U14 VDD_SOC_CAP hidden, U15 GND hidden, U16 VDD_SOC_IN hidden, U17 GND hidden, U19 GND hidden, V8 GND hidden, V19 GND hidden, W3 GND hidden, W7 GND hidden, W8 GND hidden, W9 GND hidden, W10 GND hidden, W11 GND hidden, W12 GND hidden, W13 GND hidden, W15 GND hidden, W16 GND hidden, W17 GND hidden, W18 GND hidden, W19 GND hidden, Y5 GND hidden, Y24 GND hidden
part B pins: A5 FA_ANA, B5 VDD_FA, C8 GPANAIO, E12 TEST_MODE
part C pins: C11 POR_B (in), C12 BOOT_MODE0 (in), D11 PMIC_ON_REQ (out), D12 ONOFF (in), E11 TAMPER (in), F11 PMIC_STBY_REQ (out), F12 BOOT_MODE1 (in)
part D pins: A9 MLB_SN (io), A10 MLB_DP (io), A11 MLB_CN (in), B9 MLB_SP (io), B10 MLB_DN (io), B11 MLB_CP (in), C5 CLK2_N (io), C7 CLK1_N (io), D5 CLK2_P (io), D7 CLK1_P (io)
part E pins: D1 CSI_D1M (in), D2 CSI_D1P (in), D4 CSI_REXT, E1 CSI_D2M (in), E2 CSI_D2P (in), E3 CSI_D0P (in), E4 CSI_D0M (in), F1 CSI_D3P (in), F2 CSI_D3M (in), F3 CSI_CLK0P (in), F4 CSI_CLK0M (in), G1 DSI_D0P (out), G2 DSI_D0M (out), G4 DSI_REXT, H1 DSI_D1P (out), H2 DSI_D1M (out), H3 DSI_CLK0M (out), H4 DSI_CLK0P (out), K7 NVCC_MIPI (power)
part F pins: L1 CSI0_DAT13 (io), L3 CSI0_DAT17 (io), L4 CSI0_DAT16 (io), L6 CSI0_DAT19 (io), M1 CSI0_DAT10 (io), M2 CSI0_DAT12 (io), M3 CSI0_DAT11 (io), M4 CSI0_DAT14 (io), M5 CSI0_DAT15 (io), M6 CSI0_DAT18 (io), N1 CSI0_DAT4 (io), N2 CSI0_VSYNC (io), N3 CSI0_DAT7 (io), N4 CSI0_DAT6 (io), N5 CSI0_DAT9 (io), N6 CSI0_DAT8 (io), N7 NVCC_CSI (power), P1 CSI0_PIXCLK (io), P2 CSI0_DAT5 (io), P3 CSI0_DATA_EN (io), P4 CSI0_MCLK (io)
part G pins: N19 DI0_DISP_CLK (io), N20 DI0_PIN3 (io), N21 DI0_PIN15 (io), N25 DI0_PIN2 (io), P19 NVCC_LCD (power), P20 DISP0_DAT4 (io), P21 DISP0_DAT3 (io), P22 DISP0_DAT1 (io), P23 DISP0_DAT2 (io), P24 DISP0_DAT0 (io), P25 DI0_PIN4 (io), R20 DISP0_DAT13 (io), R21 DISP0_DAT10 (io), R22 DISP0_DAT8 (io), R23 DISP0_DAT6 (io), R24 DISP0_DAT7 (io), R25 DISP0_DAT5 (io), T20 DISP0_DAT21 (io), T21 DISP0_DAT16 (io), T22 DISP0_DAT15 (io), T23 DISP0_DAT11 (io), T24 DISP0_DAT12 (io), T25 DISP0_DAT9 (io), U22 DISP0_DAT20 (io), U23 DISP0_DAT19 (io), U24 DISP0_DAT17 (io), U25 DISP0_DAT14 (io), V24 DISP0_DAT22 (io), V25 DISP0_DAT18 (io), W24 DISP0_DAT23 (io)
part H pins: C25 EIM_D16 (io), D24 EIM_D18 (io), D25 EIM_D23 (io), E22 EIM_EB2 (io), E23 EIM_D22 (io), E24 EIM_D26 (io), E25 EIM_D27 (io), F21 EIM_D17 (io), F22 EIM_D24 (io), F23 EIM_EB3 (io), F24 EIM_A22 (io), F25 EIM_A24 (io), G20 EIM_D20 (io), G21 EIM_D19 (io), G22 EIM_D25 (io), G23 EIM_D28 (io), G24 EIM_A17 (io), G25 EIM_A19 (io), H19 EIM_A25 (io), H20 EIM_D21 (io), H21 EIM_D31 (io), H22 EIM_A20 (io), H23 EIM_A21 (io), H24 EIM_CS0 (io), H25 EIM_A16 (io), J19 EIM_D29 (io), J20 EIM_D30 (io), J21 EIM_A23 (io), J22 EIM_A18 (io), J23 EIM_CS1 (io), J24 EIM_OE (io), J25 EIM_DA1 (io), K19 NVCC_EIM0 (power), K20 EIM_RW (io), K21 EIM_EB0 (io), K22 EIM_LBA (io), K23 EIM_EB1 (io), K24 EIM_DA3 (io), K25 EIM_DA6 (io), L19 NVCC_EIM1 (power), L20 EIM_DA0 (io), L21 EIM_DA2 (io), L22 EIM_DA4 (io), L23 EIM_DA5 (io), L24 EIM_DA8 (io), L25 EIM_DA7 (io), M19 NVCC_EIM2 (power), M20 EIM_DA11 (io), M21 EIM_DA9 (io), M22 EIM_DA10 (io), M23 EIM_DA13 (io), M24 EIM_DA12 (io), M25 EIM_WAIT (io), N22 EIM_BCLK (io), N23 EIM_DA14 (io), N24 EIM_DA15 (io)
part I pins: R19 NVCC_ENET (power), U20 ENET_TXD0 (io), U21 ENET_CRS_DV (io), V20 ENET_MDC (io), V21 ENET_TX_EN (io), V22 ENET_REF_CLK (io), V23 ENET_MDIO (io), W20 ENET_TXD1 (io), W21 ENET_RXD0 (io), W22 ENET_RXD1 (io), W23 ENET_RX_ER (io)
part J pins: P5 GPIO_19 (io), P6 GPIO_18 (io), P7 NVCC_GPIO (power), R1 GPIO_17 (io), R2 GPIO_16 (io), R3 GPIO_7 (io), R4 GPIO_5 (io), R5 GPIO_8 (io), R6 GPIO_4 (io), R7 GPIO_3 (io), T1 GPIO_2 (io), T2 GPIO_9 (io), T3 GPIO_6 (io), T4 GPIO_1 (io), T5 GPIO_0 (io), T6 KEY_COL4 (io), T7 KEY_ROW3 (io), U5 KEY_COL3 (io), U6 KEY_ROW1 (io), U7 KEY_COL1 (io), V5 KEY_ROW4 (io), V6 KEY_ROW0 (io), W4 KEY_ROW2 (io), W5 KEY_COL0 (io), W6 KEY_COL2 (io)
part K pins: J1 HDMI_REF, J3 HDMI_D1M (out), J4 HDMI_D1P (out), J5 HDMI_CLKM (out), J6 HDMI_CLKP (out), K1 HDMI_HPD (in), K2 HDMI_DDCCEC, K3 HDMI_D2M (out), K4 HDMI_D2P (out), K5 HDMI_D0M (out), K6 HDMI_D0P (out), L7 HDMI_VP (power), M7 HDMI_VPH (power)
part L pins: C2 JTAG_TRSTB (io), C3 JTAG_TMS (io), G5 JTAG_TDI (io), G6 JTAG_TDO (io), H5 JTAG_TCK (io), H6 JTAG_MOD (in), J7 NVCC_JTAG (power)
part M pins: AA1 LVDS1_TX1_P (out), AA2 LVDS1_TX1_N (out), AA3 LVDS1_TX3_N (out), AA4 LVDS1_TX3_P (out), AB1 LVDS1_TX2_N (out), AB2 LVDS1_TX2_P (out), U1 LVDS0_TX0_P (out), U2 LVDS0_TX0_N (out), U3 LVDS0_TX1_P (out), U4 LVDS0_TX1_N (out), V1 LVDS0_TX2_P (out), V2 LVDS0_TX2_N (out), V3 LVDS0_CLK_P (out), V4 LVDS0_CLK_N (out), V7 NVCC_LVDS2P5 (power), W1 LVDS0_TX3_P (out), W2 LVDS0_TX3_N (out), Y1 LVDS1_TX0_N (out), Y2 LVDS1_TX0_P (out), Y3 LVDS1_CLK_N (out), Y4 LVDS1_CLK_P (out)
part N pins: A16 NANDF_ALE (io), A17 NANDF_CS2 (io), A18 NANDF_D0 (io), A19 NANDF_D4 (io), A20 SD4_DAT3 (io), B16 NANDF_RB0 (io), B17 SD4_CMD (io), B18 NANDF_D5 (io), B19 SD4_DAT1 (io), B20 SD4_DAT6 (io), C15 NANDF_CLE (io), C16 NANDF_CS1 (io), C17 NANDF_D1 (io), C18 NANDF_D7 (io), C19 SD4_DAT5 (io), D16 NANDF_CS3 (io), D17 NANDF_D3 (io), D18 SD4_DAT0 (io), D19 SD4_DAT7 (io), E15 NANDF_WP_B (io), E16 SD4_CLK (io), E17 NANDF_D6 (io), E18 SD4_DAT4 (io), F15 NANDF_CS0 (io), F16 NANDF_D2 (io), F17 SD4_DAT2 (io), G15 NVCC_NANDF (power)
part O pins: A2 PCIE_REXT, A3 PCIE_TXM (out), B1 PCIE_RXM (in), B2 PCIE_RXP (in), B3 PCIE_TXP (out), G7 PCIE_VPH (power), G8 PCIE_VPTX (power), H7 PCIE_VP (power)
part P pins: A6 USB_OTG_DP (io), B6 USB_OTG_DN (io), B8 USB_OTG_CHD_B (io), D10 USB_H1_VBUS (power), E9 USB_OTG_VBUS (power), E10 USB_H1_DP (io), F10 USB_H1_DN (io)
part Q pins: A24 RGMII_TD3 (io), B23 RGMII_RD1 (io), B24 RGMII_RD2 (io), B25 RGMII_RXC (io), C22 RGMII_TD0 (io), C23 RGMII_TX_CTL (io), C24 RGMII_RD0 (io), D21 RGMII_TXC (io), D22 RGMII_RX_CTL (io), D23 RGMII_RD3 (io), E21 RGMII_TD2 (io), F20 RGMII_TD1 (io), G18 NVCC_RGMII (power)
part R pins: A21 SD1_DAT0 (io), B21 SD1_CMD (io), C20 SD1_DAT1 (io), D20 SD1_CLK (io), E19 SD1_DAT2 (io), F18 SD1_DAT3 (io), G16 NVCC_SD1 (power)
part S pins: A22 SD2_DAT0 (io), A23 SD2_DAT2 (io), B22 SD2_DAT3 (io), C21 SD2_CLK (io), E20 SD2_DAT1 (io), F19 SD2_CMD (io), G17 NVCC_SD2 (power)
part T pins: A15 SD3_DAT2 (io), B13 SD3_CMD (io), B15 SD3_DAT3 (io), C13 SD3_DAT5 (io), D13 SD3_DAT4 (io), D14 SD3_CLK (io), D15 SD3_RST (io), E13 SD3_DAT6 (io), E14 SD3_DAT0 (io), F13 SD3_DAT7 (io), F14 SD3_DAT1 (io), G14 NVCC_SD3 (power)
part U pins: AA5 DRAM_D3 (io), AA6 DRAM_D10 (io), AA8 DRAM_D17 (io), AA9 DRAM_D23 (io), AA11 DRAM_SDCKE1 (out), AA12 DRAM_A14 (out), AA14 DRAM_A2 (out), AA15 DRAM_A10 (out), AA17 DRAM_D32 (io), AA18 DRAM_D33 (io), AA20 DRAM_D45 (io), AA21 DRAM_D57 (io), AA23 DRAM_D61 (io), AA24 DRAM_SDQS7_B (io), AA25 DRAM_SDQS7 (io), AB4 DRAM_D6 (io), AB5 DRAM_D12 (io), AB6 DRAM_D14 (io), AB7 DRAM_D16 (io), AB8 DRAM_DQM2 (out), AB9 DRAM_D18 (io), AB10 DRAM_SDQS3_B (io), AB11 DRAM_D27 (io), AB12 DRAM_SDBA2 (out), AB13 DRAM_A8 (out), AB14 DRAM_A1 (out), AB15 DRAM_RAS (out), AB16 DRAM_SDWE (out), AB17 DRAM_SDODT1 (out), AB18 DRAM_DQM4 (out), AB19 DRAM_D38 (io), AB20 DRAM_D41 (io), AB21 DRAM_D42 (io), AB22 DRAM_D52 (io), AB23 DRAM_D60 (io), AB25 DRAM_D56 (io), AC1 DRAM_D4 (io), AC2 DRAM_VREF (power), AC3 DRAM_DQM0 (out), AC4 DRAM_D2 (io), AC5 DRAM_D13 (io), AC6 DRAM_DQM1 (out), AC7 DRAM_D15 (io), AC8 DRAM_D22 (io), AC9 DRAM_D28 (io), AC10 DRAM_SDQS3 (io), AC11 DRAM_D31 (io), AC12 DRAM_A11 (out), AC13 DRAM_A6 (out), AC14 DRAM_A0 (out), AC15 DRAM_SDBA0 (out), AC16 DRAM_SDODT0 (out), AC17 DRAM_A13 (out), AC18 DRAM_D34 (io), AC19 DRAM_D39 (io), AC20 DRAM_DQM5 (out), AC21 DRAM_D47 (io), AC22 DRAM_D48 (io), AC23 DRAM_D53 (io), AC24 DRAM_D51 (io), AC25 DRAM_D55 (io), AD1 DRAM_D5 (io), AD2 DRAM_D0 (io), AD3 DRAM_SDQS0_B (io), AD5 DRAM_D8 (io), AD6 DRAM_SDQS1 (io), AD8 DRAM_SDQS2 (io), AD9 DRAM_D29 (io), AD11 DRAM_D30 (io), AD12 DRAM_A12 (out), AD14 DRAM_SDCLK_1 (out), AD15 DRAM_SDCLK_0 (out), AD17 DRAM_CS1 (out), AD18 DRAM_SDQS4 (io), AD20 DRAM_SDQS5 (io), AD21 DRAM_D43 (io), AD23 DRAM_SDQS6 (io), AD24 DRAM_DQM6 (out), AD25 DRAM_D54 (io), AE2 DRAM_D1 (io), AE3 DRAM_SDQS0 (io), AE4 DRAM_D7 (io), AE5 DRAM_D9 (io), AE6 DRAM_SDQS1_B (io), AE7 DRAM_D11 (io), AE8 DRAM_SDQS2_B (io), AE9 DRAM_D24 (io), AE10 DRAM_DQM3 (out), AE11 DRAM_D26 (io), AE12 DRAM_A9 (out), AE13 DRAM_A5 (out), AE14 DRAM_SDCLK_1_B (out), AE15 DRAM_SDCLK_0_B (out), AE16 DRAM_CAS (out), AE17 ZQPAD, AE18 DRAM_SDQS4_B (io), AE19 DRAM_D35 (io), AE20 DRAM_SDQS5_B (io), AE21 DRAM_D46 (io), AE22 DRAM_D49 (io), AE23 DRAM_SDQS6_B (io), AE24 DRAM_D50 (io), R18 NVCC_DRAM (power), T18 NVCC_DRAM hidden, U18 NVCC_DRAM hidden, V9 NVCC_DRAM hidden, V10 NVCC_DRAM hidden, V11 NVCC_DRAM hidden, V12 NVCC_DRAM hidden, V13 NVCC_DRAM hidden, V14 NVCC_DRAM hidden, V15 NVCC_DRAM hidden, V16 NVCC_DRAM hidden, V17 NVCC_DRAM hidden, V18 NVCC_DRAM hidden, W14 DRAM_A4 (out), W25 DRAM_D63 (io), Y6 DRAM_RESET (out), Y7 DRAM_D20 (io), Y8 DRAM_D21 (io), Y9 DRAM_D19 (io), Y10 DRAM_D25 (io), Y11 DRAM_SDCKE0 (out), Y12 DRAM_A15 (out), Y13 DRAM_A7 (out), Y14 DRAM_A3 (out), Y15 DRAM_SDBA1 (out), Y16 DRAM_CS0 (out), Y17 DRAM_D36 (io), Y18 DRAM_D37 (io), Y19 DRAM_D40 (io), Y20 DRAM_D44 (io), Y21 DRAM_DQM7 (out), Y22 DRAM_D59 (io), Y23 DRAM_D62 (io), Y25 DRAM_D58 (io)
part V pins: A7 XTALI (in), B7 XTALO (out)
part W pins: C9 RTC_XTALO (out), D9 RTC_XTALI (in)
part X pins: A12 SATA_TXP (out), A14 SATA_RXM (in), B12 SATA_TXM (out), B14 SATA_RXP (in), C14 SATA_REXT, G12 SATA_VPH (power), G13 SATA_VP (power)
part A text: Power Management
part B text: Factory (NXP only)
part C text: Boot/Power Management
part D text: Clock; MediaLB
part E text: MIPI Camera
part F text: Camera
part G text: LCD Display
part H text: External memory
part I text: 10/100-Mbit Ethernet
part J text: GPIO
part K text: HDMI Display
part L text: JTAG Debug
part M text: LVDS Display
part N text: NAND Flash; SD/MMC
part O text: PCIe 2.0
part P text: HS USB2.0 Host; HS USB2.0 OTG
part Q text: Gigabit Ethernet
part R text: SD/MMC
part S text: SD/MMC
part T text: SD/MMC
part U text: DDR3/DDR3L/LPDDR2
part V text: Crystal Oscillator
part W text: RTC
part X text: SATA

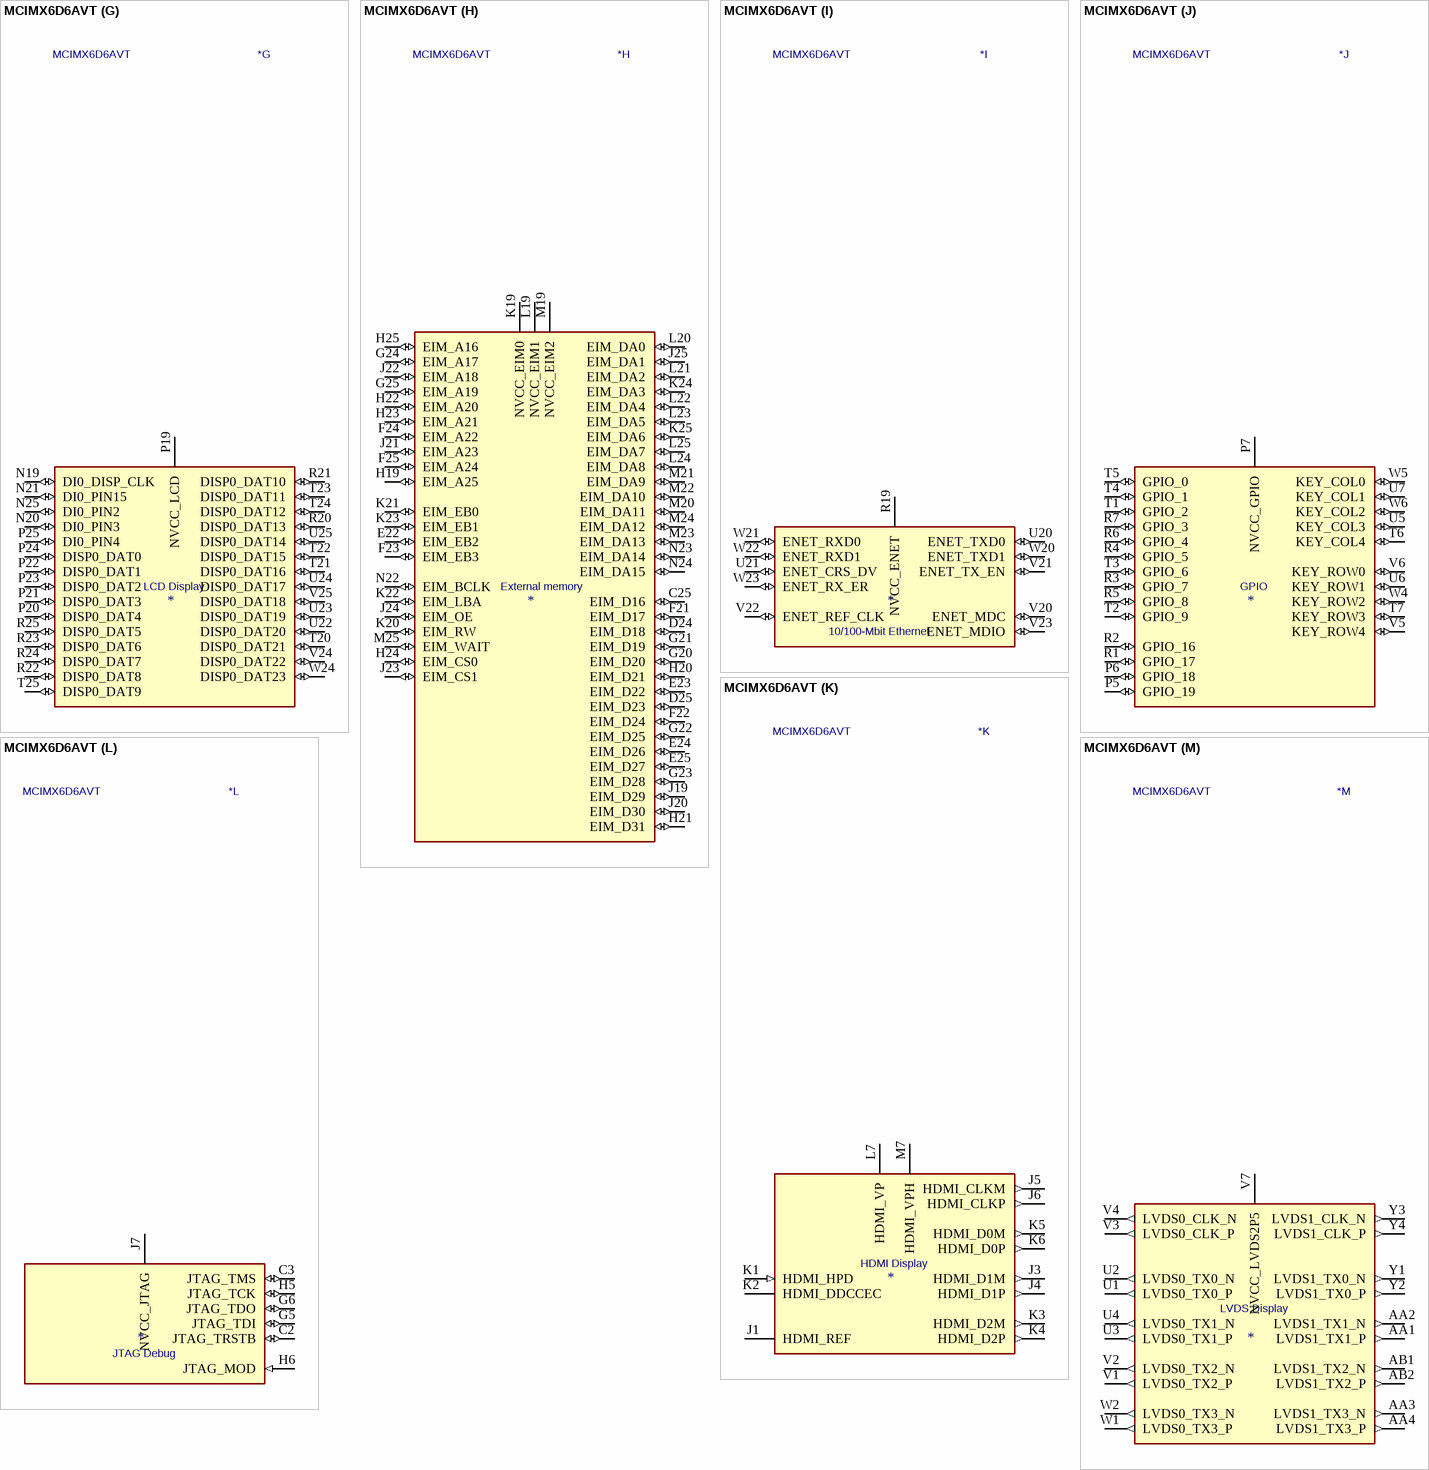
[diagram p7: symbol MCIMX6D6AVT]

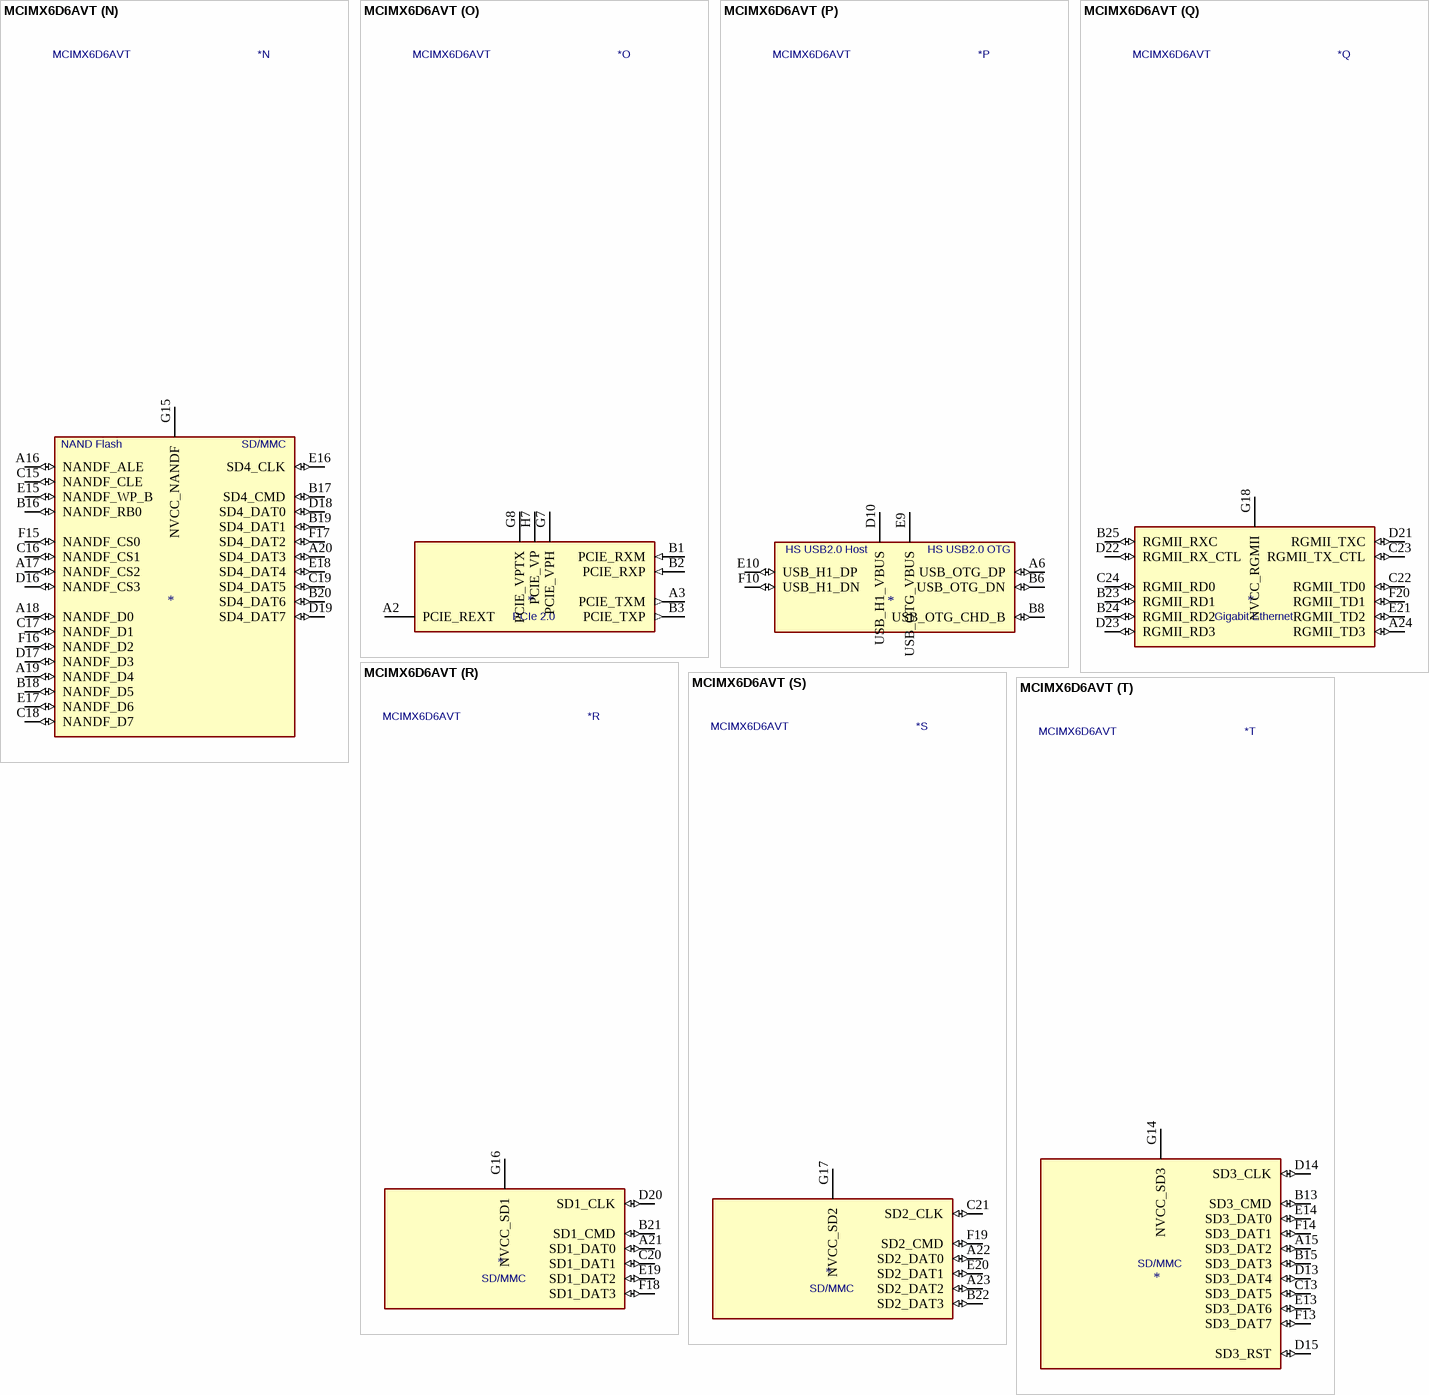
[diagram p8: symbol MCIMX6D6AVT]

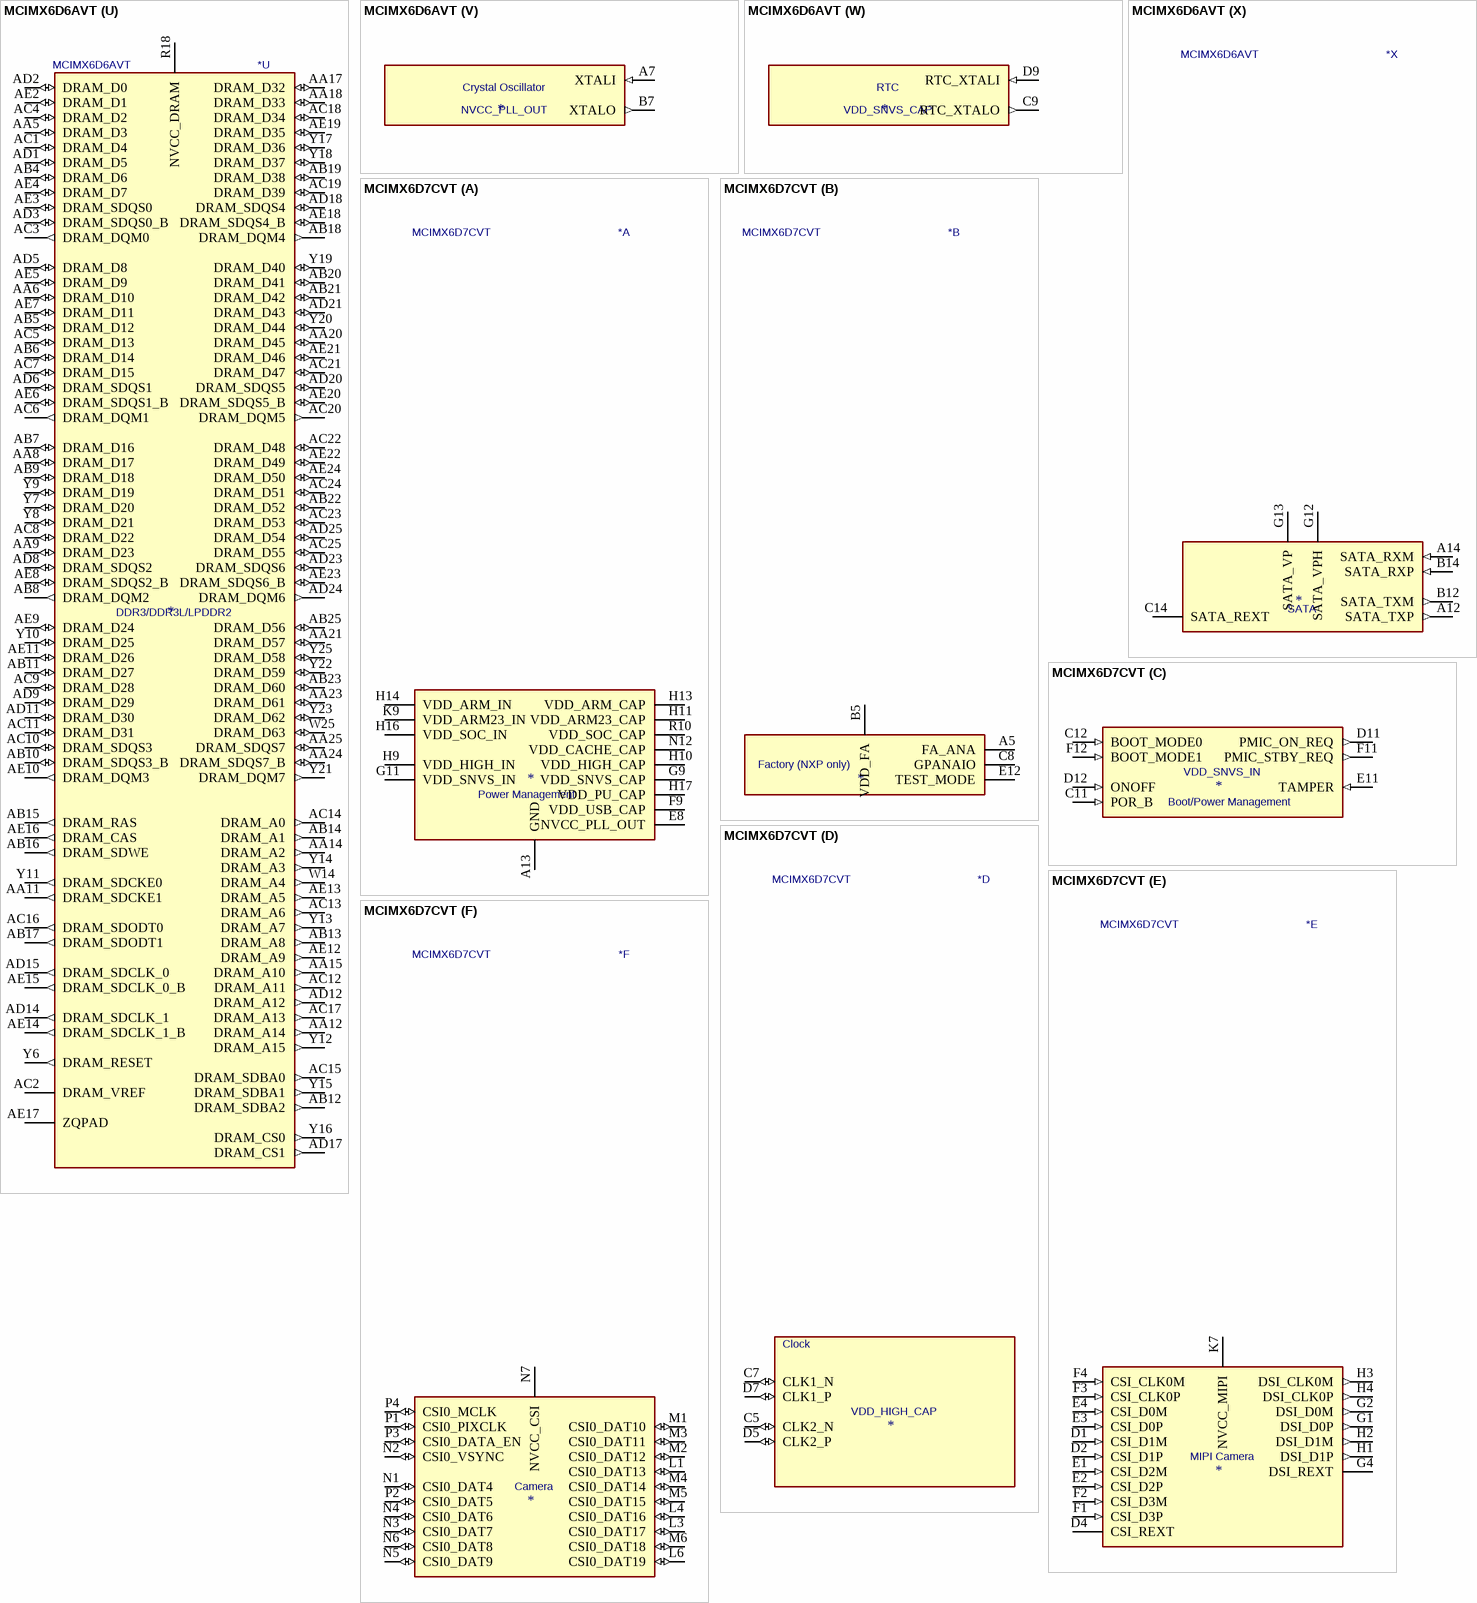
[diagram p9: symbols MCIMX6D6AVT to MCIMX6D7CVT]

## MCIMX6D6AVT
designator *  value MCIMX6D6AVT
ki_keywords: Dual-Core ARM Cortex A9 SOC Automotive; ki_description: i.MX 6Dual Automotive and Infotainment Application Processor, BGA-624; ki_fp_filters: BGA*21.0x21.0mm*P0.8mm*; Footprint: Package_BGA:BGA-624_21.0x21.0mm_Layout25x25_P0.8mm; Supplier: https://www.nxp.com/docs/en/data-sheet/IMX6DQAEC.pdf
footprint BGA-624_21.0x21.0mm_Layout25x25_P0.8mm
part A pins: A4 GND hidden, A8 GND hidden, A13 GND (power), A25 GND hidden, AA7 GND hidden, AA10 GND hidden, AA13 GND hidden, AA16 GND hidden, AA19 GND hidden, AA22 GND hidden, AB3 GND hidden, AB24 GND hidden, AD4 GND hidden, AD7 GND hidden, AD10 GND hidden, AD13 GND hidden, AD16 GND hidden, AD19 GND hidden, AD22 GND hidden, AE1 GND hidden, AE25 GND hidden, B4 GND hidden, C1 GND hidden, C4 GND hidden, C6 GND hidden, C10 GND hidden, D3 GND hidden, D6 GND hidden, D8 GND hidden, E5 GND hidden, E6 GND hidden, E7 GND hidden, E8 NVCC_PLL_OUT (power), F5 GND hidden, F6 GND hidden, F7 GND hidden, F8 GND hidden, F9 VDD_USB_CAP (power), G3 GND hidden, G9 VDD_SNVS_CAP (power), G10 GND hidden, G11 VDD_SNVS_IN (power), G19 GND hidden, H8 GND hidden, H9 VDD_HIGH_IN (power), H10 VDD_HIGH_CAP (power), H11 VDD_ARM23_CAP (power), H12 GND hidden, H13 VDD_ARM_CAP (power), H14 VDD_ARM_IN (power), H15 GND hidden, H16 VDD_SOC_IN (power), H17 VDD_PU_CAP (power), H18 GND hidden, J2 GND hidden, J8 GND hidden, J9 VDD_HIGH_IN hidden, J10 VDD_HIGH_CAP hidden, J11 VDD_ARM23_CAP hidden, J12 GND hidden, J13 VDD_ARM_CAP hidden, J14 VDD_ARM_IN hidden, J15 GND hidden, J16 VDD_SOC_IN hidden, J17 VDD_PU_CAP hidden, J18 GND hidden, K8 GND hidden, K9 VDD_ARM23_IN (power), K10 GND hidden, K11 VDD_ARM23_CAP hidden, K12 GND hidden, K13 VDD_ARM_CAP hidden, K14 VDD_ARM_IN hidden, K15 GND hidden, K16 VDD_SOC_IN hidden, K17 VDD_PU_CAP hidden, K18 GND hidden, L2 GND hidden, L5 GND hidden, L8 GND hidden, L9 VDD_ARM23_IN hidden, L10 GND hidden, L11 VDD_ARM23_CAP hidden, L12 GND hidden, L13 VDD_ARM_CAP hidden, L14 VDD_ARM_IN hidden, L15 GND hidden, L16 VDD_SOC_IN hidden, L17 VDD_PU_CAP hidden, L18 GND hidden, M8 GND hidden, M9 VDD_ARM23_IN hidden, M10 GND hidden, M11 VDD_ARM23_CAP hidden, M12 GND hidden, M13 VDD_ARM_CAP hidden, M14 VDD_ARM_IN hidden, M15 GND hidden, M16 VDD_SOC_IN hidden, M17 VDD_PU_CAP hidden, M18 GND hidden, N8 GND hidden, N9 VDD_ARM23_IN hidden, N10 GND hidden, N11 VDD_ARM23_CAP hidden, N12 VDD_CACHE_CAP (power), N13 VDD_ARM_CAP hidden, N14 VDD_ARM_IN hidden, N15 GND hidden, N16 VDD_SOC_IN hidden, N17 VDD_PU_CAP hidden, N18 GND hidden, P8 GND hidden, P9 VDD_ARM23_IN hidden, P10 GND hidden, P11 VDD_ARM23_CAP hidden, P12 GND hidden, P13 VDD_ARM_CAP hidden, P14 VDD_ARM_IN hidden, P15 GND hidden, P16 VDD_SOC_IN hidden, P17 VDD_PU_CAP hidden, P18 GND hidden, R8 GND hidden, R9 VDD_ARM23_IN hidden, R10 VDD_SOC_CAP (power), R11 VDD_ARM23_CAP hidden, R12 GND hidden, R13 VDD_ARM_CAP hidden, R14 VDD_ARM_IN hidden, R15 GND hidden, R16 VDD_SOC_IN hidden, R17 GND hidden, T8 GND hidden, T9 VDD_ARM23_IN hidden, T10 VDD_SOC_CAP hidden, T11 GND hidden, T12 GND hidden, T13 VDD_SOC_CAP hidden, T14 VDD_SOC_CAP hidden, T15 GND hidden, T16 VDD_SOC_IN hidden, T17 GND hidden, T19 GND hidden, U8 GND hidden, U9 VDD_ARM23_IN hidden, U10 VDD_SOC_CAP hidden, U11 GND hidden, U12 GND hidden, U13 VDD_SOC_CAP hidden, U14 VDD_SOC_CAP hidden, U15 GND hidden, U16 VDD_SOC_IN hidden, U17 GND hidden, U19 GND hidden, V8 GND hidden, V19 GND hidden, W3 GND hidden, W7 GND hidden, W8 GND hidden, W9 GND hidden, W10 GND hidden, W11 GND hidden, W12 GND hidden, W13 GND hidden, W15 GND hidden, W16 GND hidden, W17 GND hidden, W18 GND hidden, W19 GND hidden, Y5 GND hidden, Y24 GND hidden
part B pins: A5 FA_ANA, B5 VDD_FA, C8 GPANAIO, E12 TEST_MODE
part C pins: C11 POR_B (in), C12 BOOT_MODE0 (in), D11 PMIC_ON_REQ (out), D12 ONOFF (in), E11 TAMPER (in), F11 PMIC_STBY_REQ (out), F12 BOOT_MODE1 (in)
part D pins: A9 MLB_SN (io), A10 MLB_DP (io), A11 MLB_CN (in), B9 MLB_SP (io), B10 MLB_DN (io), B11 MLB_CP (in), C5 CLK2_N (io), C7 CLK1_N (io), D5 CLK2_P (io), D7 CLK1_P (io)
part E pins: D1 CSI_D1M (in), D2 CSI_D1P (in), D4 CSI_REXT, E1 CSI_D2M (in), E2 CSI_D2P (in), E3 CSI_D0P (in), E4 CSI_D0M (in), F1 CSI_D3P (in), F2 CSI_D3M (in), F3 CSI_CLK0P (in), F4 CSI_CLK0M (in), G1 DSI_D0P (out), G2 DSI_D0M (out), G4 DSI_REXT, H1 DSI_D1P (out), H2 DSI_D1M (out), H3 DSI_CLK0M (out), H4 DSI_CLK0P (out), K7 NVCC_MIPI (power)
part F pins: L1 CSI0_DAT13 (io), L3 CSI0_DAT17 (io), L4 CSI0_DAT16 (io), L6 CSI0_DAT19 (io), M1 CSI0_DAT10 (io), M2 CSI0_DAT12 (io), M3 CSI0_DAT11 (io), M4 CSI0_DAT14 (io), M5 CSI0_DAT15 (io), M6 CSI0_DAT18 (io), N1 CSI0_DAT4 (io), N2 CSI0_VSYNC (io), N3 CSI0_DAT7 (io), N4 CSI0_DAT6 (io), N5 CSI0_DAT9 (io), N6 CSI0_DAT8 (io), N7 NVCC_CSI (power), P1 CSI0_PIXCLK (io), P2 CSI0_DAT5 (io), P3 CSI0_DATA_EN (io), P4 CSI0_MCLK (io)
part G pins: N19 DI0_DISP_CLK (io), N20 DI0_PIN3 (io), N21 DI0_PIN15 (io), N25 DI0_PIN2 (io), P19 NVCC_LCD (power), P20 DISP0_DAT4 (io), P21 DISP0_DAT3 (io), P22 DISP0_DAT1 (io), P23 DISP0_DAT2 (io), P24 DISP0_DAT0 (io), P25 DI0_PIN4 (io), R20 DISP0_DAT13 (io), R21 DISP0_DAT10 (io), R22 DISP0_DAT8 (io), R23 DISP0_DAT6 (io), R24 DISP0_DAT7 (io), R25 DISP0_DAT5 (io), T20 DISP0_DAT21 (io), T21 DISP0_DAT16 (io), T22 DISP0_DAT15 (io), T23 DISP0_DAT11 (io), T24 DISP0_DAT12 (io), T25 DISP0_DAT9 (io), U22 DISP0_DAT20 (io), U23 DISP0_DAT19 (io), U24 DISP0_DAT17 (io), U25 DISP0_DAT14 (io), V24 DISP0_DAT22 (io), V25 DISP0_DAT18 (io), W24 DISP0_DAT23 (io)
part H pins: C25 EIM_D16 (io), D24 EIM_D18 (io), D25 EIM_D23 (io), E22 EIM_EB2 (io), E23 EIM_D22 (io), E24 EIM_D26 (io), E25 EIM_D27 (io), F21 EIM_D17 (io), F22 EIM_D24 (io), F23 EIM_EB3 (io), F24 EIM_A22 (io), F25 EIM_A24 (io), G20 EIM_D20 (io), G21 EIM_D19 (io), G22 EIM_D25 (io), G23 EIM_D28 (io), G24 EIM_A17 (io), G25 EIM_A19 (io), H19 EIM_A25 (io), H20 EIM_D21 (io), H21 EIM_D31 (io), H22 EIM_A20 (io), H23 EIM_A21 (io), H24 EIM_CS0 (io), H25 EIM_A16 (io), J19 EIM_D29 (io), J20 EIM_D30 (io), J21 EIM_A23 (io), J22 EIM_A18 (io), J23 EIM_CS1 (io), J24 EIM_OE (io), J25 EIM_DA1 (io), K19 NVCC_EIM0 (power), K20 EIM_RW (io), K21 EIM_EB0 (io), K22 EIM_LBA (io), K23 EIM_EB1 (io), K24 EIM_DA3 (io), K25 EIM_DA6 (io), L19 NVCC_EIM1 (power), L20 EIM_DA0 (io), L21 EIM_DA2 (io), L22 EIM_DA4 (io), L23 EIM_DA5 (io), L24 EIM_DA8 (io), L25 EIM_DA7 (io), M19 NVCC_EIM2 (power), M20 EIM_DA11 (io), M21 EIM_DA9 (io), M22 EIM_DA10 (io), M23 EIM_DA13 (io), M24 EIM_DA12 (io), M25 EIM_WAIT (io), N22 EIM_BCLK (io), N23 EIM_DA14 (io), N24 EIM_DA15 (io)
part I pins: R19 NVCC_ENET (power), U20 ENET_TXD0 (io), U21 ENET_CRS_DV (io), V20 ENET_MDC (io), V21 ENET_TX_EN (io), V22 ENET_REF_CLK (io), V23 ENET_MDIO (io), W20 ENET_TXD1 (io), W21 ENET_RXD0 (io), W22 ENET_RXD1 (io), W23 ENET_RX_ER (io)
part J pins: P5 GPIO_19 (io), P6 GPIO_18 (io), P7 NVCC_GPIO (power), R1 GPIO_17 (io), R2 GPIO_16 (io), R3 GPIO_7 (io), R4 GPIO_5 (io), R5 GPIO_8 (io), R6 GPIO_4 (io), R7 GPIO_3 (io), T1 GPIO_2 (io), T2 GPIO_9 (io), T3 GPIO_6 (io), T4 GPIO_1 (io), T5 GPIO_0 (io), T6 KEY_COL4 (io), T7 KEY_ROW3 (io), U5 KEY_COL3 (io), U6 KEY_ROW1 (io), U7 KEY_COL1 (io), V5 KEY_ROW4 (io), V6 KEY_ROW0 (io), W4 KEY_ROW2 (io), W5 KEY_COL0 (io), W6 KEY_COL2 (io)
part K pins: J1 HDMI_REF, J3 HDMI_D1M (out), J4 HDMI_D1P (out), J5 HDMI_CLKM (out), J6 HDMI_CLKP (out), K1 HDMI_HPD (in), K2 HDMI_DDCCEC, K3 HDMI_D2M (out), K4 HDMI_D2P (out), K5 HDMI_D0M (out), K6 HDMI_D0P (out), L7 HDMI_VP (power), M7 HDMI_VPH (power)
part L pins: C2 JTAG_TRSTB (io), C3 JTAG_TMS (io), G5 JTAG_TDI (io), G6 JTAG_TDO (io), H5 JTAG_TCK (io), H6 JTAG_MOD (in), J7 NVCC_JTAG (power)
part M pins: AA1 LVDS1_TX1_P (out), AA2 LVDS1_TX1_N (out), AA3 LVDS1_TX3_N (out), AA4 LVDS1_TX3_P (out), AB1 LVDS1_TX2_N (out), AB2 LVDS1_TX2_P (out), U1 LVDS0_TX0_P (out), U2 LVDS0_TX0_N (out), U3 LVDS0_TX1_P (out), U4 LVDS0_TX1_N (out), V1 LVDS0_TX2_P (out), V2 LVDS0_TX2_N (out), V3 LVDS0_CLK_P (out), V4 LVDS0_CLK_N (out), V7 NVCC_LVDS2P5 (power), W1 LVDS0_TX3_P (out), W2 LVDS0_TX3_N (out), Y1 LVDS1_TX0_N (out), Y2 LVDS1_TX0_P (out), Y3 LVDS1_CLK_N (out), Y4 LVDS1_CLK_P (out)
part N pins: A16 NANDF_ALE (io), A17 NANDF_CS2 (io), A18 NANDF_D0 (io), A19 NANDF_D4 (io), A20 SD4_DAT3 (io), B16 NANDF_RB0 (io), B17 SD4_CMD (io), B18 NANDF_D5 (io), B19 SD4_DAT1 (io), B20 SD4_DAT6 (io), C15 NANDF_CLE (io), C16 NANDF_CS1 (io), C17 NANDF_D1 (io), C18 NANDF_D7 (io), C19 SD4_DAT5 (io), D16 NANDF_CS3 (io), D17 NANDF_D3 (io), D18 SD4_DAT0 (io), D19 SD4_DAT7 (io), E15 NANDF_WP_B (io), E16 SD4_CLK (io), E17 NANDF_D6 (io), E18 SD4_DAT4 (io), F15 NANDF_CS0 (io), F16 NANDF_D2 (io), F17 SD4_DAT2 (io), G15 NVCC_NANDF (power)
part O pins: A2 PCIE_REXT, A3 PCIE_TXM (out), B1 PCIE_RXM (in), B2 PCIE_RXP (in), B3 PCIE_TXP (out), G7 PCIE_VPH (power), G8 PCIE_VPTX (power), H7 PCIE_VP (power)
part P pins: A6 USB_OTG_DP (io), B6 USB_OTG_DN (io), B8 USB_OTG_CHD_B (io), D10 USB_H1_VBUS (power), E9 USB_OTG_VBUS (power), E10 USB_H1_DP (io), F10 USB_H1_DN (io)
part Q pins: A24 RGMII_TD3 (io), B23 RGMII_RD1 (io), B24 RGMII_RD2 (io), B25 RGMII_RXC (io), C22 RGMII_TD0 (io), C23 RGMII_TX_CTL (io), C24 RGMII_RD0 (io), D21 RGMII_TXC (io), D22 RGMII_RX_CTL (io), D23 RGMII_RD3 (io), E21 RGMII_TD2 (io), F20 RGMII_TD1 (io), G18 NVCC_RGMII (power)
part R pins: A21 SD1_DAT0 (io), B21 SD1_CMD (io), C20 SD1_DAT1 (io), D20 SD1_CLK (io), E19 SD1_DAT2 (io), F18 SD1_DAT3 (io), G16 NVCC_SD1 (power)
part S pins: A22 SD2_DAT0 (io), A23 SD2_DAT2 (io), B22 SD2_DAT3 (io), C21 SD2_CLK (io), E20 SD2_DAT1 (io), F19 SD2_CMD (io), G17 NVCC_SD2 (power)
part T pins: A15 SD3_DAT2 (io), B13 SD3_CMD (io), B15 SD3_DAT3 (io), C13 SD3_DAT5 (io), D13 SD3_DAT4 (io), D14 SD3_CLK (io), D15 SD3_RST (io), E13 SD3_DAT6 (io), E14 SD3_DAT0 (io), F13 SD3_DAT7 (io), F14 SD3_DAT1 (io), G14 NVCC_SD3 (power)
part U pins: AA5 DRAM_D3 (io), AA6 DRAM_D10 (io), AA8 DRAM_D17 (io), AA9 DRAM_D23 (io), AA11 DRAM_SDCKE1 (out), AA12 DRAM_A14 (out), AA14 DRAM_A2 (out), AA15 DRAM_A10 (out), AA17 DRAM_D32 (io), AA18 DRAM_D33 (io), AA20 DRAM_D45 (io), AA21 DRAM_D57 (io), AA23 DRAM_D61 (io), AA24 DRAM_SDQS7_B (io), AA25 DRAM_SDQS7 (io), AB4 DRAM_D6 (io), AB5 DRAM_D12 (io), AB6 DRAM_D14 (io), AB7 DRAM_D16 (io), AB8 DRAM_DQM2 (out), AB9 DRAM_D18 (io), AB10 DRAM_SDQS3_B (io), AB11 DRAM_D27 (io), AB12 DRAM_SDBA2 (out), AB13 DRAM_A8 (out), AB14 DRAM_A1 (out), AB15 DRAM_RAS (out), AB16 DRAM_SDWE (out), AB17 DRAM_SDODT1 (out), AB18 DRAM_DQM4 (out), AB19 DRAM_D38 (io), AB20 DRAM_D41 (io), AB21 DRAM_D42 (io), AB22 DRAM_D52 (io), AB23 DRAM_D60 (io), AB25 DRAM_D56 (io), AC1 DRAM_D4 (io), AC2 DRAM_VREF (power), AC3 DRAM_DQM0 (out), AC4 DRAM_D2 (io), AC5 DRAM_D13 (io), AC6 DRAM_DQM1 (out), AC7 DRAM_D15 (io), AC8 DRAM_D22 (io), AC9 DRAM_D28 (io), AC10 DRAM_SDQS3 (io), AC11 DRAM_D31 (io), AC12 DRAM_A11 (out), AC13 DRAM_A6 (out), AC14 DRAM_A0 (out), AC15 DRAM_SDBA0 (out), AC16 DRAM_SDODT0 (out), AC17 DRAM_A13 (out), AC18 DRAM_D34 (io), AC19 DRAM_D39 (io), AC20 DRAM_DQM5 (out), AC21 DRAM_D47 (io), AC22 DRAM_D48 (io), AC23 DRAM_D53 (io), AC24 DRAM_D51 (io), AC25 DRAM_D55 (io), AD1 DRAM_D5 (io), AD2 DRAM_D0 (io), AD3 DRAM_SDQS0_B (io), AD5 DRAM_D8 (io), AD6 DRAM_SDQS1 (io), AD8 DRAM_SDQS2 (io), AD9 DRAM_D29 (io), AD11 DRAM_D30 (io), AD12 DRAM_A12 (out), AD14 DRAM_SDCLK_1 (out), AD15 DRAM_SDCLK_0 (out), AD17 DRAM_CS1 (out), AD18 DRAM_SDQS4 (io), AD20 DRAM_SDQS5 (io), AD21 DRAM_D43 (io), AD23 DRAM_SDQS6 (io), AD24 DRAM_DQM6 (out), AD25 DRAM_D54 (io), AE2 DRAM_D1 (io), AE3 DRAM_SDQS0 (io), AE4 DRAM_D7 (io), AE5 DRAM_D9 (io), AE6 DRAM_SDQS1_B (io), AE7 DRAM_D11 (io), AE8 DRAM_SDQS2_B (io), AE9 DRAM_D24 (io), AE10 DRAM_DQM3 (out), AE11 DRAM_D26 (io), AE12 DRAM_A9 (out), AE13 DRAM_A5 (out), AE14 DRAM_SDCLK_1_B (out), AE15 DRAM_SDCLK_0_B (out), AE16 DRAM_CAS (out), AE17 ZQPAD, AE18 DRAM_SDQS4_B (io), AE19 DRAM_D35 (io), AE20 DRAM_SDQS5_B (io), AE21 DRAM_D46 (io), AE22 DRAM_D49 (io), AE23 DRAM_SDQS6_B (io), AE24 DRAM_D50 (io), R18 NVCC_DRAM (power), T18 NVCC_DRAM hidden, U18 NVCC_DRAM hidden, V9 NVCC_DRAM hidden, V10 NVCC_DRAM hidden, V11 NVCC_DRAM hidden, V12 NVCC_DRAM hidden, V13 NVCC_DRAM hidden, V14 NVCC_DRAM hidden, V15 NVCC_DRAM hidden, V16 NVCC_DRAM hidden, V17 NVCC_DRAM hidden, V18 NVCC_DRAM hidden, W14 DRAM_A4 (out), W25 DRAM_D63 (io), Y6 DRAM_RESET (out), Y7 DRAM_D20 (io), Y8 DRAM_D21 (io), Y9 DRAM_D19 (io), Y10 DRAM_D25 (io), Y11 DRAM_SDCKE0 (out), Y12 DRAM_A15 (out), Y13 DRAM_A7 (out), Y14 DRAM_A3 (out), Y15 DRAM_SDBA1 (out), Y16 DRAM_CS0 (out), Y17 DRAM_D36 (io), Y18 DRAM_D37 (io), Y19 DRAM_D40 (io), Y20 DRAM_D44 (io), Y21 DRAM_DQM7 (out), Y22 DRAM_D59 (io), Y23 DRAM_D62 (io), Y25 DRAM_D58 (io)
part V pins: A7 XTALI (in), B7 XTALO (out)
part W pins: C9 RTC_XTALO (out), D9 RTC_XTALI (in)
part X pins: A12 SATA_TXP (out), A14 SATA_RXM (in), B12 SATA_TXM (out), B14 SATA_RXP (in), C14 SATA_REXT, G12 SATA_VPH (power), G13 SATA_VP (power)
part A text: Power Management
part B text: Factory (NXP only)
part C text: Boot/Power Management
part D text: Clock; MediaLB
part E text: MIPI Camera
part F text: Camera
part G text: LCD Display
part H text: External memory
part I text: 10/100-Mbit Ethernet
part J text: GPIO
part K text: HDMI Display
part L text: JTAG Debug
part M text: LVDS Display
part N text: NAND Flash; SD/MMC
part O text: PCIe 2.0
part P text: HS USB2.0 Host; HS USB2.0 OTG
part Q text: Gigabit Ethernet
part R text: SD/MMC
part S text: SD/MMC
part T text: SD/MMC
part U text: DDR3/DDR3L/LPDDR2
part V text: Crystal Oscillator
part W text: RTC
part X text: SATA

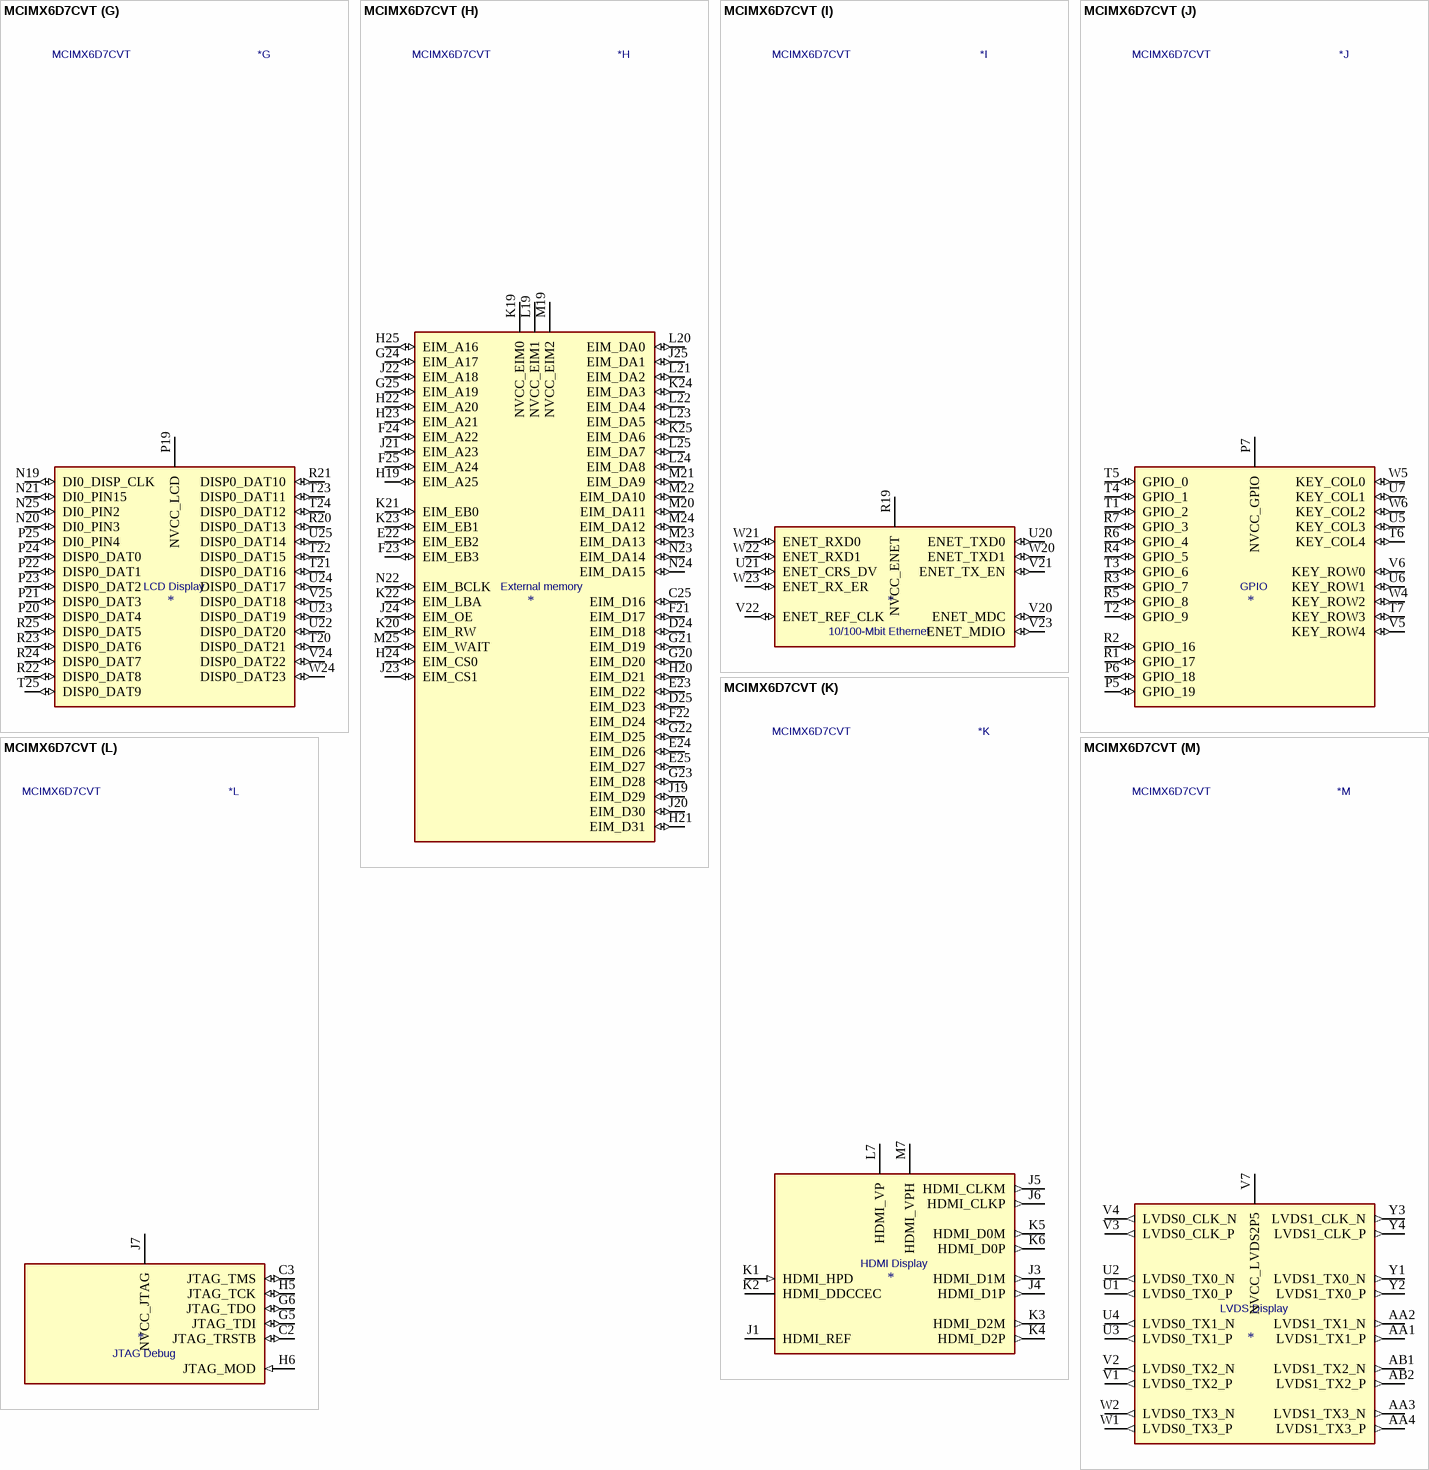
[diagram p10: symbol MCIMX6D7CVT]

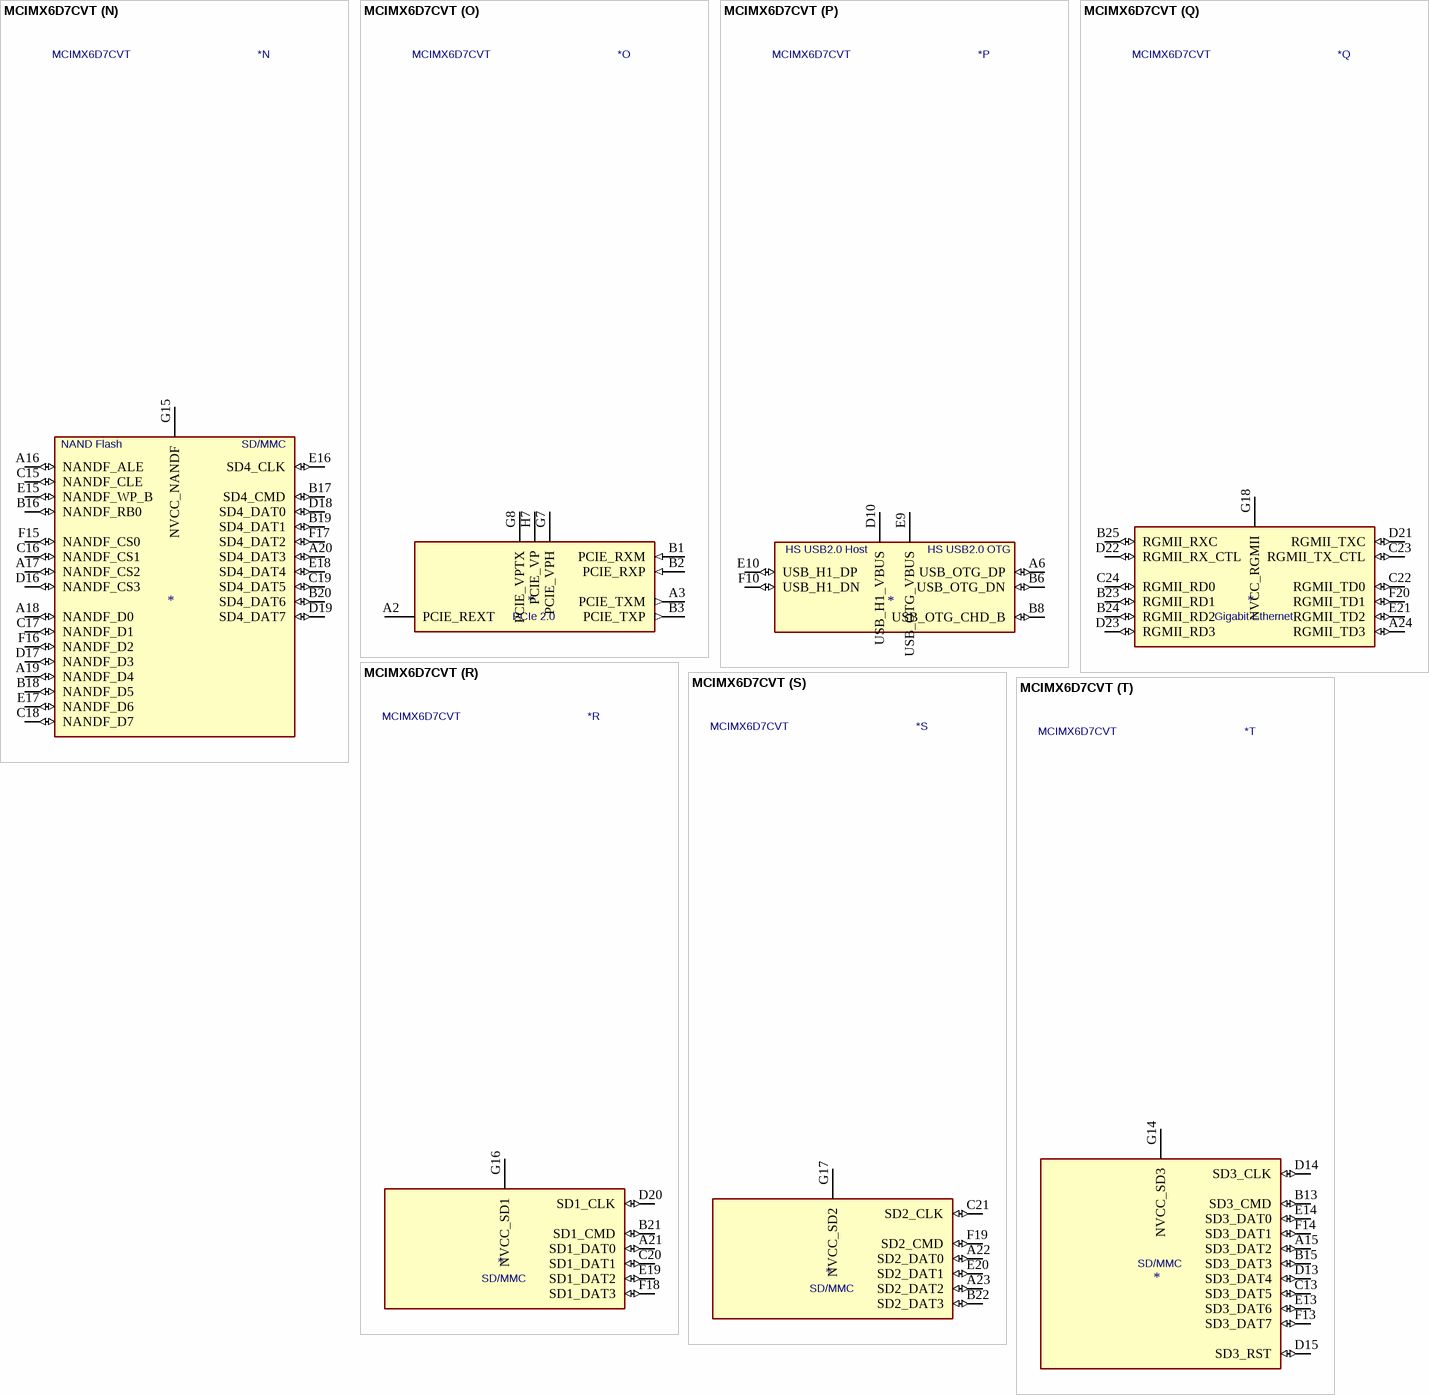
[diagram p11: symbol MCIMX6D7CVT]

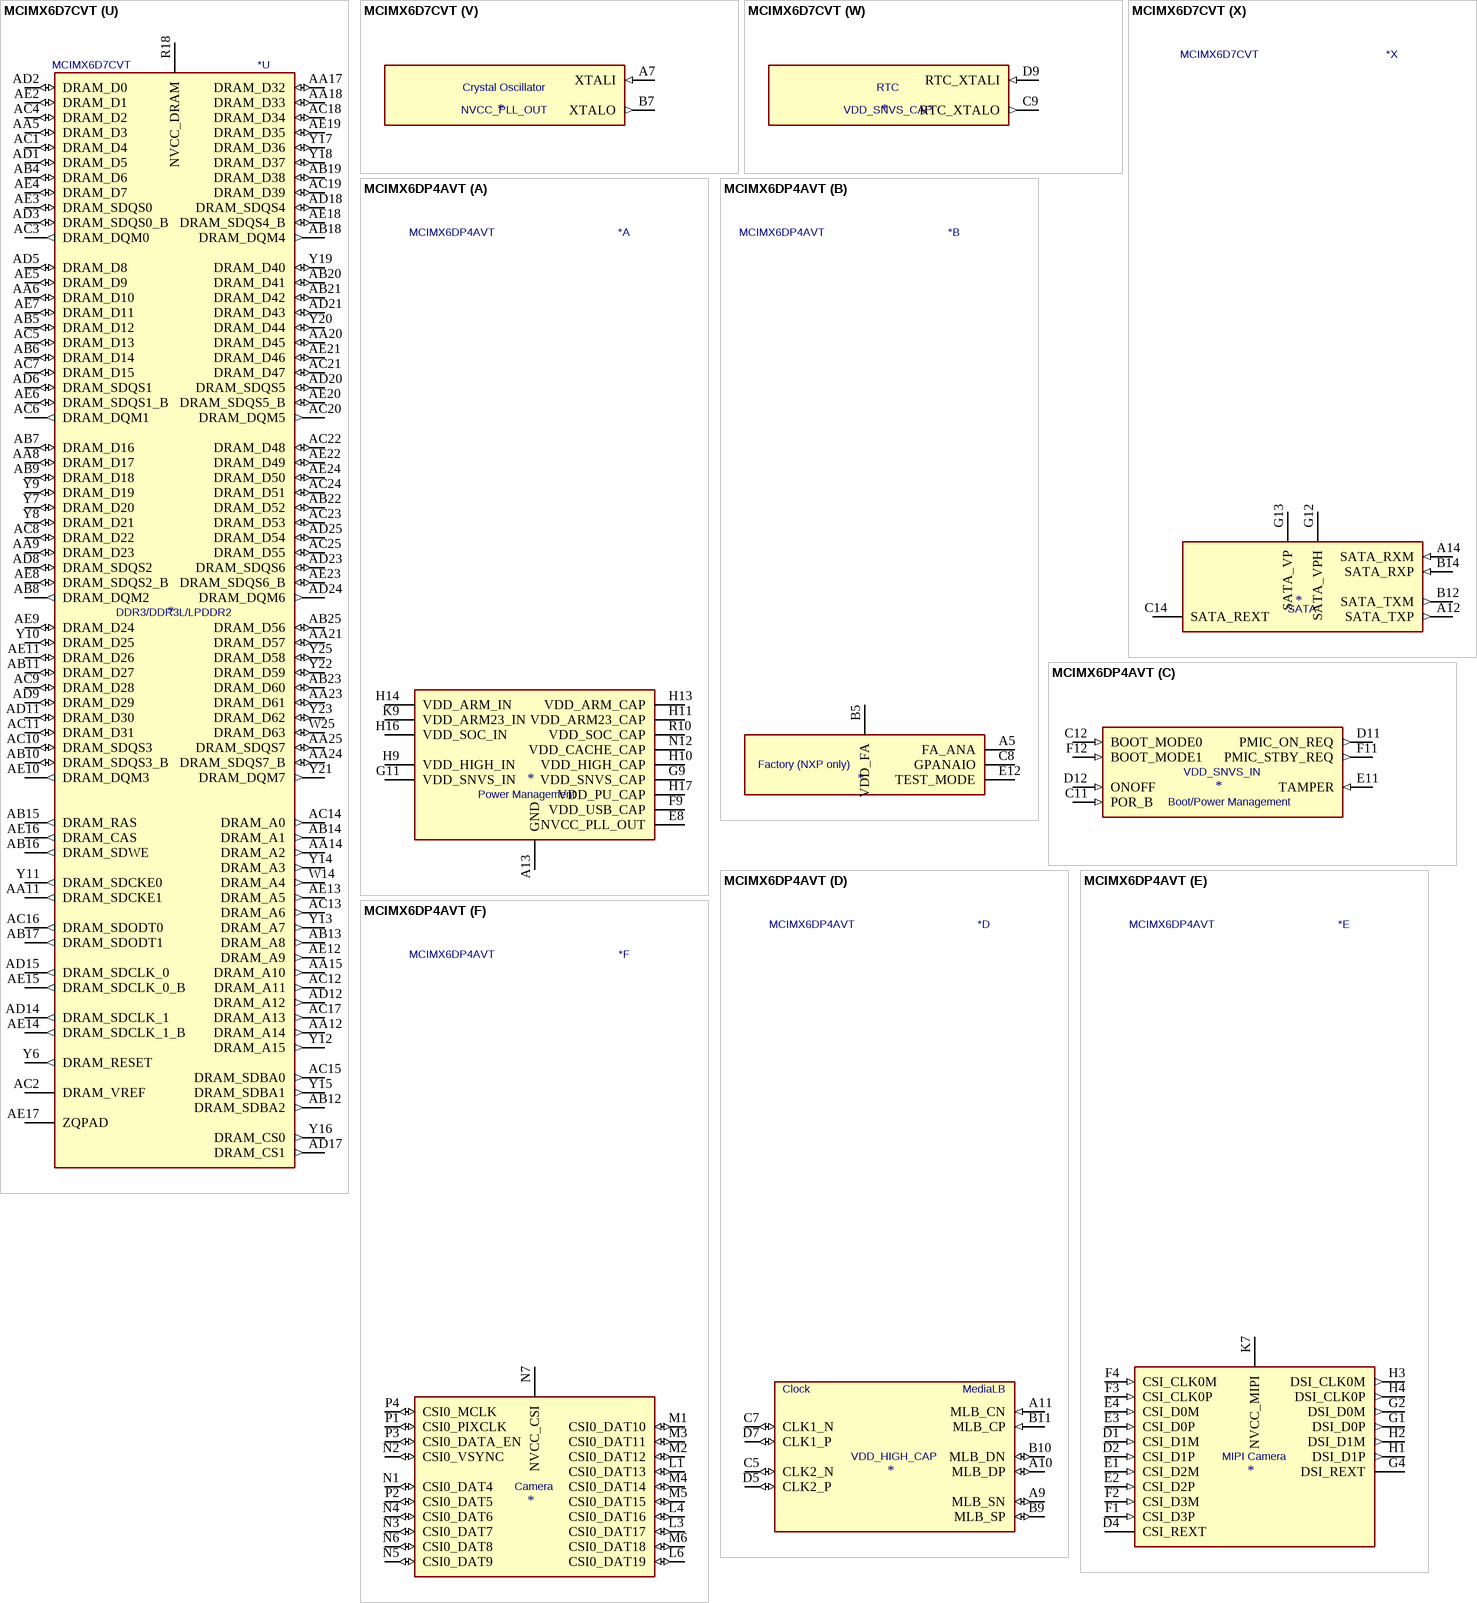
[diagram p12: symbols MCIMX6D7CVT to MCIMX6DP4AVT]